# Altium integrated library LabLib.IntLib: 212 symbols (part 1 of 2)
Pins are listed as number, name and electrical type; pins without a type are passive.

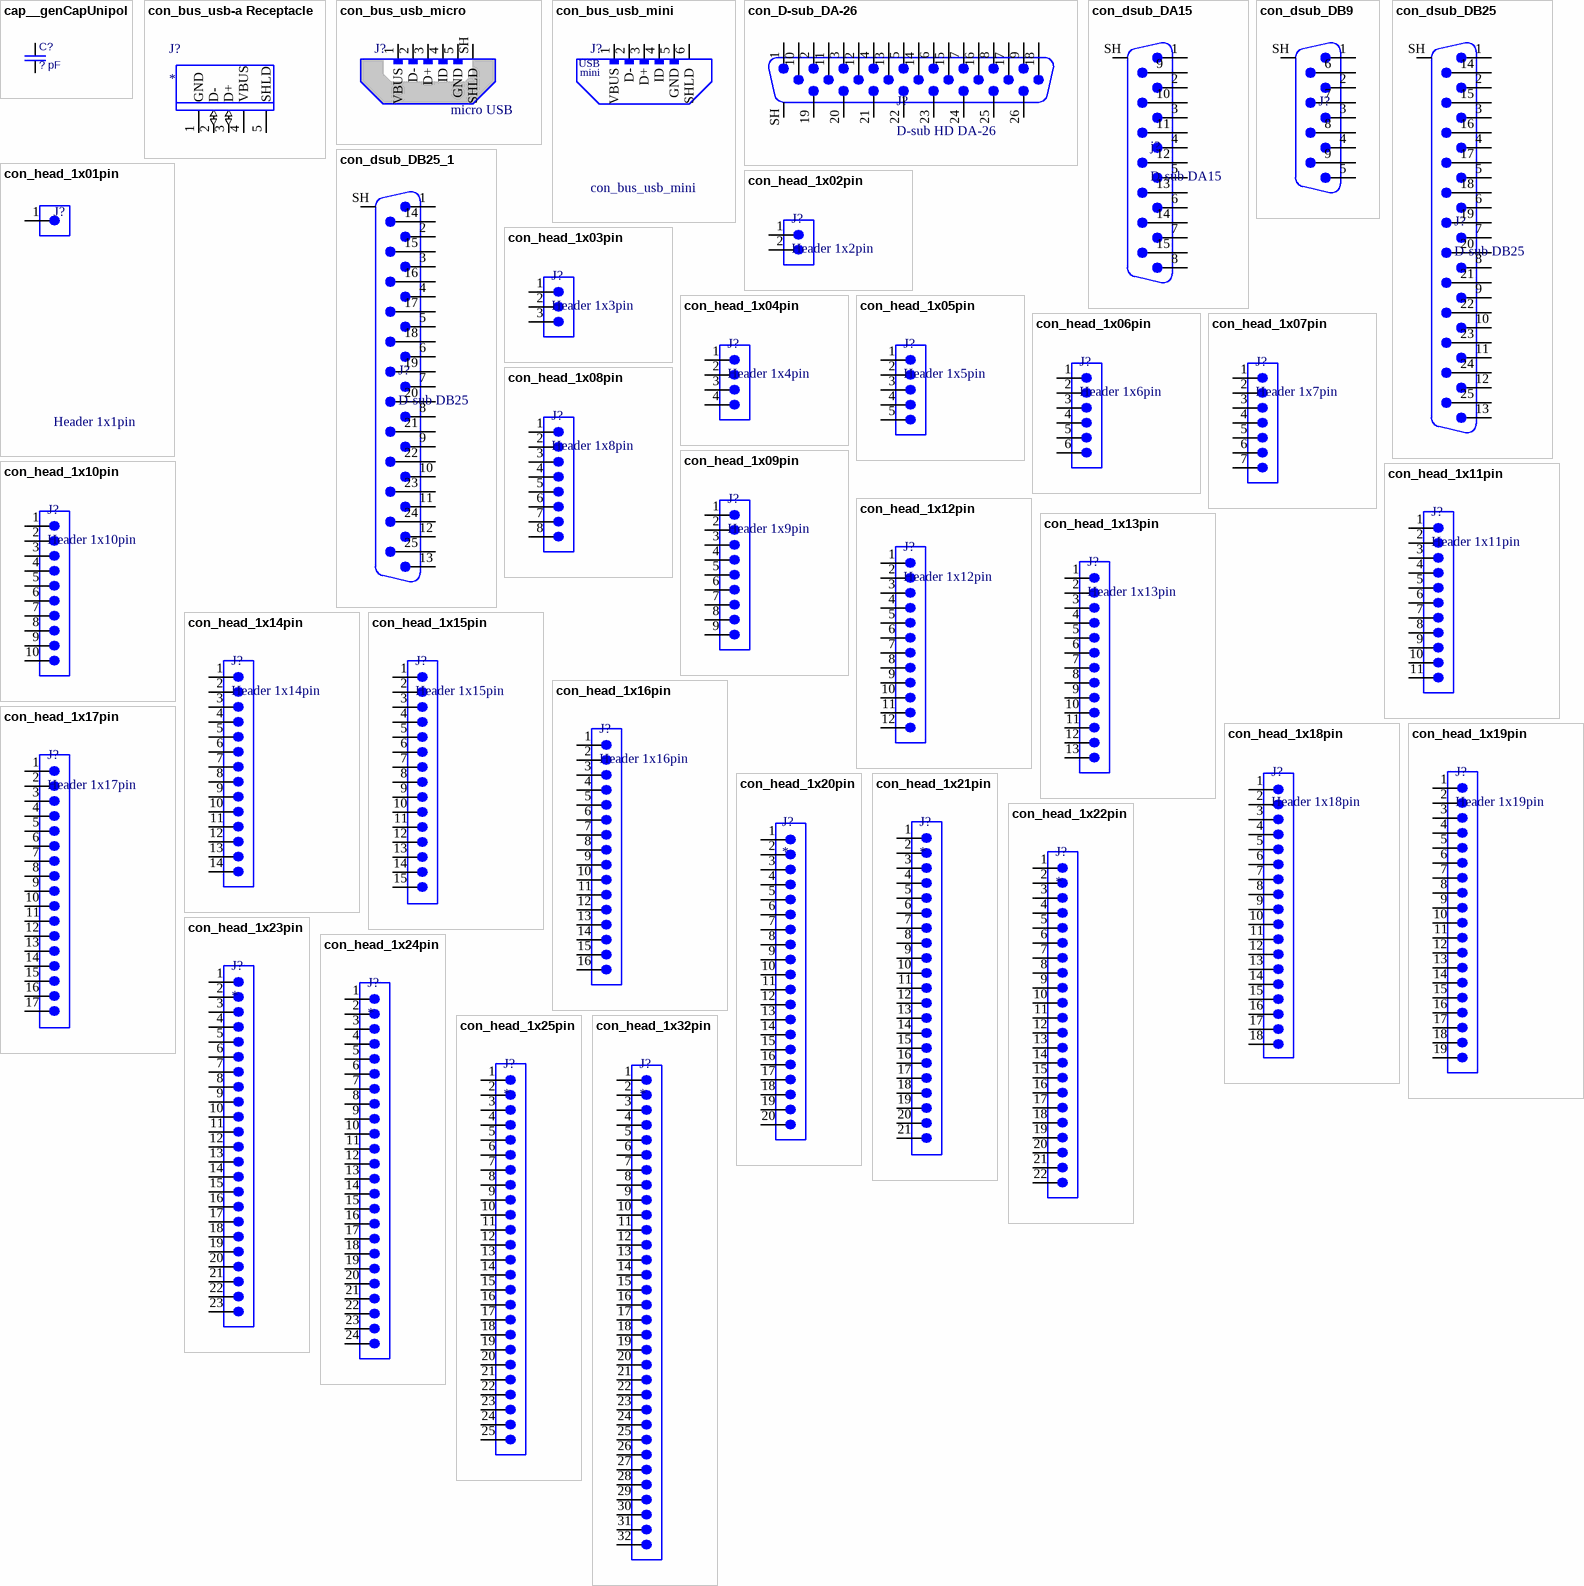
[diagram p0: symbols cap__genCapUnipol to con_head_1x32pin]

## cap__genCapUnipol
designator C?, comment ? pF
Generic unipolarised capasitor; Voltage rating: ? V; Value: ? pF
pins: 1, 2

## con_bus_usb-a Receptacle
designator J?
Standard USB A receptacle; Datasheet: http://www.molex.com/pdm_docs/sd/676430910_sd.pdf; Supplier 1: Digi-Key
footprint USB-A (Molex 067643-0910 Thru-hole top-mount USB-A receptacle)
pins: 1 GND (power), 2 D- (io), 3 D+ (io), 4 VBUS (power), 5 SHLD

## con_bus_usb_micro
designator J?, comment micro USB
Standard micro USB connector
footprint FCI_MICRO_USB_10103593-0001LF
pins: 1 VBUS, 2 D-, 3 D+, 4 ID, 5 GND, SH SHLD (power)

## con_bus_usb_mini
designator J?
Standard mini USB connector; Manufacturer Part Number: UX60-MB-5ST; Manufacturer Data Sheet: http://www.hirose.co.jp/cataloge_hp/e24000019.pdf; Supplier 1: Digi-Key
footprint USB_MINI_OBC
pins: 1 VBUS, 2 D-, 3 D+, 4 ID, 5 GND, 6 SHLD (power)
text: USB; mini

## con_D-sub_DA-26
designator J?, comment D-sub HD DA-26
D-sub high density 26 pin, shell size A
pins: 1, 2, 3, 4, 5, 6, 7, 8, 9, 10, 11, 12, 13, 14, 15, 16, 17, 18, 19, 20, 21, 22, 23, 24, 25, 26, SH

## con_dsub_DA15
designator j?, comment D-sub DA15
pins: 1, 2, 3, 4, 5, 6, 7, 8, 9, 10, 11, 12, 13, 14, 15, SH

## con_dsub_DB9
designator J?, comment D-sub DA9  (value not drawn)
pins: 1, 2, 3, 4, 5, 6, 7, 8, 9, SH

## con_dsub_DB25
designator J?, comment D-sub DB25
pins: 1, 2, 3, 4, 5, 6, 7, 8, 9, 10, 11, 12, 13, 14, 15, 16, 17, 18, 19, 20, 21, 22, 23, 24, 25, SH

## con_dsub_DB25_1
designator J?, comment D-sub DB25
pins: 1, 2, 3, 4, 5, 6, 7, 8, 9, 10, 11, 12, 13, 14, 15, 16, 17, 18, 19, 20, 21, 22, 23, 24, 25, SH

## con_head_1x01pin
designator J?, comment Header 1x1pin
footprint HEADER_1X1
pins: 1

## con_head_1x02pin
designator J?, comment Header 1x2pin
footprint HEADER_1X2
pins: 1, 2

## con_head_1x03pin
designator J?, comment Header 1x3pin
footprint HEADER_1X3
pins: 1, 2, 3

## con_head_1x04pin
designator J?, comment Header 1x4pin
footprint header_1x4
pins: 1, 2, 3, 4

## con_head_1x05pin
designator J?, comment Header 1x5pin
footprint header_1x5
pins: 1, 2, 3, 4, 5

## con_head_1x06pin
designator J?, comment Header 1x6pin
footprint header_1x6
pins: 1, 2, 3, 4, 5, 6

## con_head_1x07pin
designator J?, comment Header 1x7pin
footprint header_1x7
pins: 1, 2, 3, 4, 5, 6, 7

## con_head_1x08pin
designator J?, comment Header 1x8pin
footprint header_1x8
pins: 1, 2, 3, 4, 5, 6, 7, 8

## con_head_1x09pin
designator J?, comment Header 1x9pin
footprint header_1x9
pins: 1, 2, 3, 4, 5, 6, 7, 8, 9

## con_head_1x10pin
designator J?, comment Header 1x10pin
footprint header_1x10
pins: 1, 2, 3, 4, 5, 6, 7, 8, 9, 10

## con_head_1x11pin
designator J?, comment Header 1x11pin
footprint header_1x11
pins: 1, 2, 3, 4, 5, 6, 7, 8, 9, 10, 11

## con_head_1x12pin
designator J?, comment Header 1x12pin
footprint header_1x12
pins: 1, 2, 3, 4, 5, 6, 7, 8, 9, 10, 11, 12

## con_head_1x13pin
designator J?, comment Header 1x13pin
footprint header_1x13
pins: 1, 2, 3, 4, 5, 6, 7, 8, 9, 10, 11, 12, 13

## con_head_1x14pin
designator J?, comment Header 1x14pin
footprint header_1x14
pins: 1, 2, 3, 4, 5, 6, 7, 8, 9, 10, 11, 12, 13, 14

## con_head_1x15pin
designator J?, comment Header 1x15pin
footprint header_1x15
pins: 1, 2, 3, 4, 5, 6, 7, 8, 9, 10, 11, 12, 13, 14, 15

## con_head_1x16pin
designator J?, comment Header 1x16pin
footprint header_1x16
pins: 1, 2, 3, 4, 5, 6, 7, 8, 9, 10, 11, 12, 13, 14, 15, 16

## con_head_1x17pin
designator J?, comment Header 1x17pin
footprint header_1x17
pins: 1, 2, 3, 4, 5, 6, 7, 8, 9, 10, 11, 12, 13, 14, 15, 16, 17

## con_head_1x18pin
designator J?, comment Header 1x18pin
footprint header_1x18
pins: 1, 2, 3, 4, 5, 6, 7, 8, 9, 10, 11, 12, 13, 14, 15, 16, 17, 18

## con_head_1x19pin
designator J?, comment Header 1x19pin
footprint header_1x19
pins: 1, 2, 3, 4, 5, 6, 7, 8, 9, 10, 11, 12, 13, 14, 15, 16, 17, 18, 19

## con_head_1x20pin
designator J?
Header 1x20pin
footprint header_1x20
pins: 1, 2, 3, 4, 5, 6, 7, 8, 9, 10, 11, 12, 13, 14, 15, 16, 17, 18, 19, 20

## con_head_1x21pin
designator J?
Header 1x21pin
footprint header_1x21
pins: 1, 2, 3, 4, 5, 6, 7, 8, 9, 10, 11, 12, 13, 14, 15, 16, 17, 18, 19, 20, 21

## con_head_1x22pin
designator J?
Header 1x22pin
footprint header_1x22
pins: 1, 2, 3, 4, 5, 6, 7, 8, 9, 10, 11, 12, 13, 14, 15, 16, 17, 18, 19, 20, 21, 22

## con_head_1x23pin
designator J?
Header 1x23pin
footprint header_1x23
pins: 1, 2, 3, 4, 5, 6, 7, 8, 9, 10, 11, 12, 13, 14, 15, 16, 17, 18, 19, 20, 21, 22, 23

## con_head_1x24pin
designator J?
Header 1x24pin
footprint header_1x24
pins: 1, 2, 3, 4, 5, 6, 7, 8, 9, 10, 11, 12, 13, 14, 15, 16, 17, 18, 19, 20, 21, 22, 23, 24

## con_head_1x25pin
designator J?
Header 1x25pin
footprint header_1x25
pins: 1, 2, 3, 4, 5, 6, 7, 8, 9, 10, 11, 12, 13, 14, 15, 16, 17, 18, 19, 20, 21, 22, 23, 24, 25

## con_head_1x32pin
designator J?
Header 1x32pin
pins: 1, 2, 3, 4, 5, 6, 7, 8, 9, 10, 11, 12, 13, 14, 15, 16, 17, 18, 19, 20, 21, 22, 23, 24, 25, 26, 27, 28, 29, 30, 31, 32

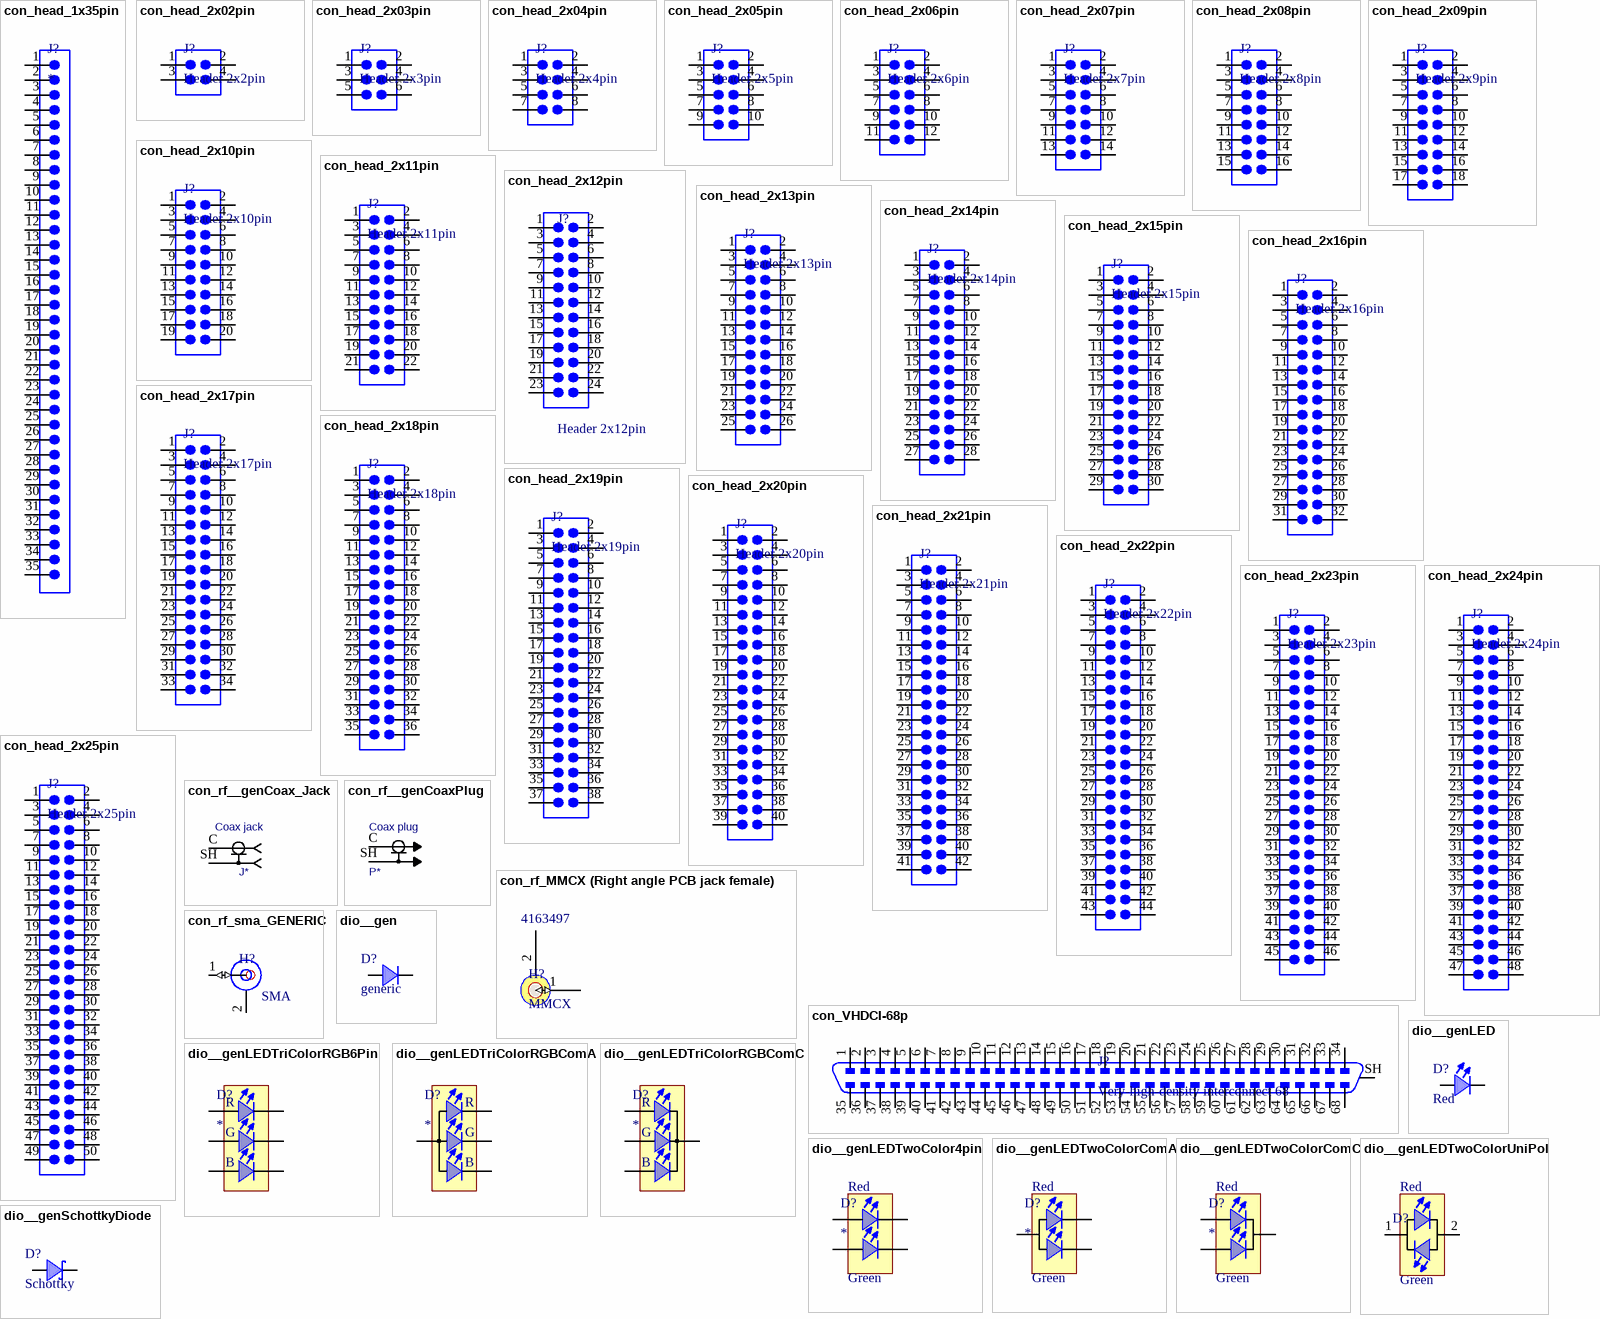
[diagram p1: symbols con_head_1x35pin to dio__genSchottkyDiode]

## con_head_1x35pin
designator J?
Header 1x35pin
pins: 1, 2, 3, 4, 5, 6, 7, 8, 9, 10, 11, 12, 13, 14, 15, 16, 17, 18, 19, 20, 21, 22, 23, 24, 25, 26, 27, 28, 29, 30, 31, 32, 33, 34, 35

## con_head_2x02pin
designator J?, comment Header 2x2pin
footprint header_2x2
pins: 1, 2, 3, 4

## con_head_2x03pin
designator J?, comment Header 2x3pin
footprint header_2x3
pins: 1, 2, 3, 4, 5, 6

## con_head_2x04pin
designator J?, comment Header 2x4pin
footprint header_2x4
pins: 1, 2, 3, 4, 5, 6, 7, 8

## con_head_2x05pin
designator J?, comment Header 2x5pin
footprint header_2x5
pins: 1, 2, 3, 4, 5, 6, 7, 8, 9, 10

## con_head_2x06pin
designator J?, comment Header 2x6pin
footprint header_2x6
pins: 1, 2, 3, 4, 5, 6, 7, 8, 9, 10, 11, 12

## con_head_2x07pin
designator J?, comment Header 2x7pin
footprint header_2x7
pins: 1, 2, 3, 4, 5, 6, 7, 8, 9, 10, 11, 12, 13, 14

## con_head_2x08pin
designator J?, comment Header 2x8pin
footprint header_2x8
pins: 1, 2, 3, 4, 5, 6, 7, 8, 9, 10, 11, 12, 13, 14, 15, 16

## con_head_2x09pin
designator J?, comment Header 2x9pin
footprint header_2x9
pins: 1, 2, 3, 4, 5, 6, 7, 8, 9, 10, 11, 12, 13, 14, 15, 16, 17, 18

## con_head_2x10pin
designator J?, comment Header 2x10pin
footprint header_2x10
pins: 1, 2, 3, 4, 5, 6, 7, 8, 9, 10, 11, 12, 13, 14, 15, 16, 17, 18, 19, 20

## con_head_2x11pin
designator J?, comment Header 2x11pin
footprint header_2x11
pins: 1, 2, 3, 4, 5, 6, 7, 8, 9, 10, 11, 12, 13, 14, 15, 16, 17, 18, 19, 20, 21, 22

## con_head_2x12pin
designator J?, comment Header 2x12pin
footprint HEADER_2X12_TH
pins: 1, 2, 3, 4, 5, 6, 7, 8, 9, 10, 11, 12, 13, 14, 15, 16, 17, 18, 19, 20, 21, 22, 23, 24

## con_head_2x13pin
designator J?, comment Header 2x13pin
footprint header_2x13
pins: 1, 2, 3, 4, 5, 6, 7, 8, 9, 10, 11, 12, 13, 14, 15, 16, 17, 18, 19, 20, 21, 22, 23, 24, 25, 26

## con_head_2x14pin
designator J?, comment Header 2x14pin
footprint header_2x14
pins: 1, 2, 3, 4, 5, 6, 7, 8, 9, 10, 11, 12, 13, 14, 15, 16, 17, 18, 19, 20, 21, 22, 23, 24, 25, 26, 27, 28

## con_head_2x15pin
designator J?, comment Header 2x15pin
footprint header_2x15
pins: 1, 2, 3, 4, 5, 6, 7, 8, 9, 10, 11, 12, 13, 14, 15, 16, 17, 18, 19, 20, 21, 22, 23, 24, 25, 26, 27, 28, 29, 30

## con_head_2x16pin
designator J?, comment Header 2x16pin
footprint header_2x16
pins: 1, 2, 3, 4, 5, 6, 7, 8, 9, 10, 11, 12, 13, 14, 15, 16, 17, 18, 19, 20, 21, 22, 23, 24, 25, 26, 27, 28, 29, 30, 31, 32

## con_head_2x17pin
designator J?, comment Header 2x17pin
footprint header_2x17
pins: 1, 2, 3, 4, 5, 6, 7, 8, 9, 10, 11, 12, 13, 14, 15, 16, 17, 18, 19, 20, 21, 22, 23, 24, 25, 26, 27, 28, 29, 30, 31, 32, 33, 34

## con_head_2x18pin
designator J?, comment Header 2x18pin
footprint header_2x18
pins: 1, 2, 3, 4, 5, 6, 7, 8, 9, 10, 11, 12, 13, 14, 15, 16, 17, 18, 19, 20, 21, 22, 23, 24, 25, 26, 27, 28, 29, 30, 31, 32, 33, 34, 35, 36

## con_head_2x19pin
designator J?, comment Header 2x19pin
footprint header_2x19
pins: 1, 2, 3, 4, 5, 6, 7, 8, 9, 10, 11, 12, 13, 14, 15, 16, 17, 18, 19, 20, 21, 22, 23, 24, 25, 26, 27, 28, 29, 30, 31, 32, 33, 34, 35, 36, 37, 38

## con_head_2x20pin
designator J?, comment Header 2x20pin
footprint header_2x20
pins: 1, 2, 3, 4, 5, 6, 7, 8, 9, 10, 11, 12, 13, 14, 15, 16, 17, 18, 19, 20, 21, 22, 23, 24, 25, 26, 27, 28, 29, 30, 31, 32, 33, 34, 35, 36, 37, 38, 39, 40

## con_head_2x21pin
designator J?, comment Header 2x21pin
footprint header_2x21
pins: 1, 2, 3, 4, 5, 6, 7, 8, 9, 10, 11, 12, 13, 14, 15, 16, 17, 18, 19, 20, 21, 22, 23, 24, 25, 26, 27, 28, 29, 30, 31, 32, 33, 34, 35, 36, 37, 38, 39, 40, 41, 42

## con_head_2x22pin
designator J?, comment Header 2x22pin
footprint header_2x22
pins: 1, 2, 3, 4, 5, 6, 7, 8, 9, 10, 11, 12, 13, 14, 15, 16, 17, 18, 19, 20, 21, 22, 23, 24, 25, 26, 27, 28, 29, 30, 31, 32, 33, 34, 35, 36, 37, 38, 39, 40, 41, 42, 43, 44

## con_head_2x23pin
designator J?, comment Header 2x23pin
footprint header_2x23
pins: 1, 2, 3, 4, 5, 6, 7, 8, 9, 10, 11, 12, 13, 14, 15, 16, 17, 18, 19, 20, 21, 22, 23, 24, 25, 26, 27, 28, 29, 30, 31, 32, 33, 34, 35, 36, 37, 38, 39, 40, 41, 42, 43, 44, 45, 46

## con_head_2x24pin
designator J?, comment Header 2x24pin
footprint header_2x24
pins: 1, 2, 3, 4, 5, 6, 7, 8, 9, 10, 11, 12, 13, 14, 15, 16, 17, 18, 19, 20, 21, 22, 23, 24, 25, 26, 27, 28, 29, 30, 31, 32, 33, 34, 35, 36, 37, 38, 39, 40, 41, 42, 43, 44, 45, 46, 47, 48

## con_head_2x25pin
designator J?, comment Header 2x25pin
footprint header_2x25
pins: 1, 2, 3, 4, 5, 6, 7, 8, 9, 10, 11, 12, 13, 14, 15, 16, 17, 18, 19, 20, 21, 22, 23, 24, 25, 26, 27, 28, 29, 30, 31, 32, 33, 34, 35, 36, 37, 38, 39, 40, 41, 42, 43, 44, 45, 46, 47, 48, 49, 50

## con_rf__genCoax_Jack
designator J*, comment Coax jack
Generic coaxial jack
pins: C, SH 9

## con_rf__genCoaxPlug
designator P*, comment Coax plug
Generic coaxial plug
pins: C, SH 9

## con_rf_MMCX (Right angle PCB jack female)
designator H?, comment MMCX  Supplier Part Number 1: 4163497
Supplier 1: Farnell
footprint MMCX (Right angled PCB jack with 3D boddy)
pins: 1 (io), 2 (oc)

## con_rf_sma_GENERIC
designator H?  (value not drawn)
footprint SMA4.75V5 (Connector; RF Coaxial, SMA, SM; 5 Position; Vertical)
pins: 1 (io) "Positive", 2 GND (power)
text: SMA

## con_VHDCI-68p
designator J?, comment Very-high-density interconnect 68
pins: 1, 2, 3, 4, 5, 6, 7, 8, 9, 10, 11, 12, 13, 14, 15, 16, 17, 18, 19, 20, 21, 22, 23, 24, 25, 26, 27, 28, 29, 30, 31, 32, 33, 34, 35, 36, 37, 38, 39, 40, 41, 42, 43, 44, 45, 46, 47, 48, 49, 50, 51, 52, 53, 54, 55, 56, 57, 58, 59, 60, 61, 62, 63, 64, 65, 66, 67, 68, SH

## dio__gen
designator D?, comment generic
Generic Diode; Model: generic
pins: 1 A, 2 C

## dio__genLED
designator D?, comment Red
Generic Single-color Light Emitting Diode - LED; Color: Red
pins: 1 A, 2 C

## dio__genLEDTriColorRGB6Pin
designator D?
Generic Tri-color RGB 6-pin Light Emitting Diode - LED
pins: 1 CB, 2 CG, 3 CR, 4 AR, 5 AG, 6 AB
text: R; G; B

## dio__genLEDTriColorRGBComA
designator D?
Generic Tri-color RGB Common Anode Light Emitting Diode - LED
pins: 1 CB, 2 A, 3 CG, 4 CR
text: R; G; B

## dio__genLEDTriColorRGBComC
designator D?
Generic Tri-color RGB Common Cathode Light Emitting Diode - LED
pins: 1 AB, 2 C, 3 AG, 4 AR
text: R; G; B

## dio__genLEDTwoColor4pin
designator D?  Color1: Red  Color2: Green
Generic Two-color 4-pin Light Emitting Diode - LED
pins: 1 C1, 2 C2, 3 A2, 4 A1

## dio__genLEDTwoColorComA
designator D?  Color1: Red  Color2: Green
Generic Two-color Common Anode Light Emitting Diode - LED
pins: 1 C1, 2 A, 3 C2

## dio__genLEDTwoColorComC
designator D?  Color1: Red  Color2: Green
Generic Two-color Common Cathode Light Emitting Diode - LED
pins: 1 A1, 2 C, 3 A2

## dio__genLEDTwoColorUniPol
designator D?  Color1: Red  Color2: Green  (hidden comment: *)
Generic Two-color Unipolarty Light Emitting Diode - LED
pins: 1, 2

## dio__genSchottkyDiode
designator D?, comment Schottky
Generic Schottky Diode
pins: 1 A, 2 C

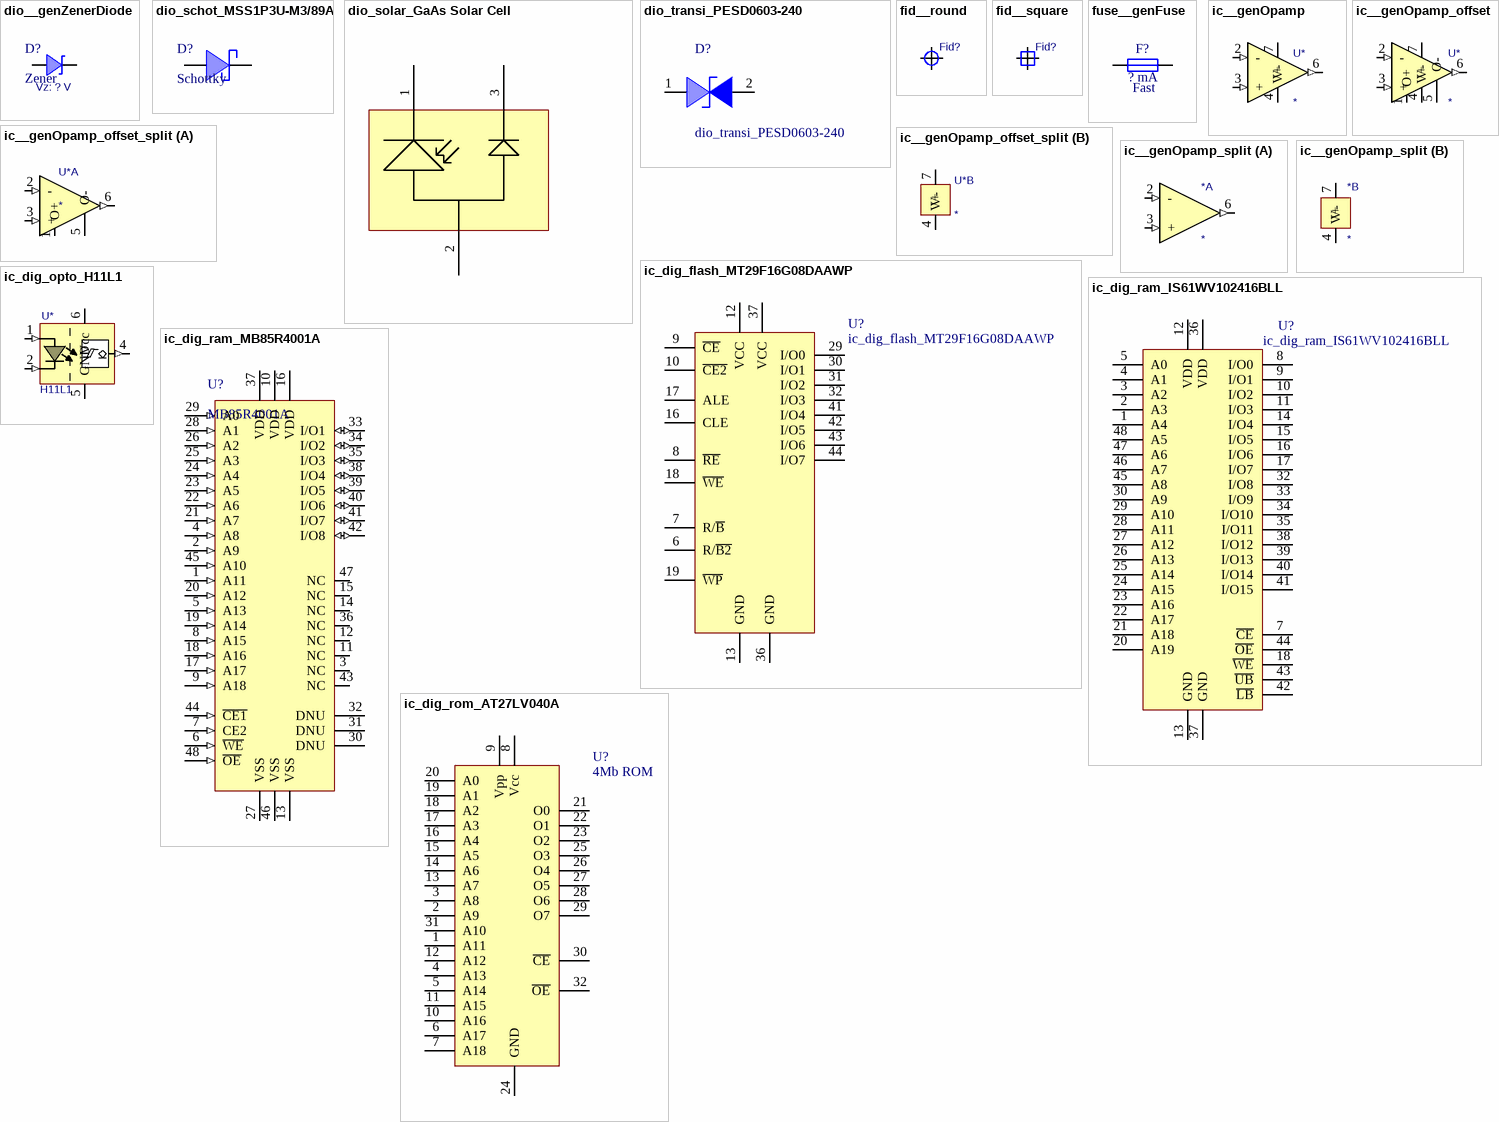
[diagram p2: symbols dio__genZenerDiode to ic_dig_rom_AT27LV040A]

## dio__genZenerDiode
designator D?, comment Zener  Vz: ? V
Generic Zener Diode
pins: 1 A, 2 C

## dio_schot_MSS1P3U-M3/89A
designator D?, comment Schottky
Schottky diode MSS1P3U-M3/89A from Vishay; Supplier 1: Digi-Key; Supplier Part Number 1: MSS1P3U-M3/89ACT-ND
footprint MicroSMP; pin to pad C>K
pins: A Anode, C Cathode

## dio_solar_GaAs Solar Cell
designator D?, comment Solar Cell
GalnP2/GaAs/Ge on Ge substrate; LatestRevisionDate: 06-03-2012; LatestRevisionNote: Re-released for DXP Platform.; Publisher: Andreas Østensen
signal-integrity model Connector
footprint Solar Cell - with positive port (With access to the positive port)
footprint Solar Cell - Glued tab to positive terminal (Positive tab glued on, all tabs shortened)
footprint Solar Cell - Short glued tab (Access to positive port, extra short tabs)
pins: 1, 2, 3

## dio_transi_PESD0603-240
designator D?
PESD0603-240; LatestRevisionDate: 17-Jul-2002; LatestRevisionNote: Re-released for DXP Platform.; Publisher: Altium Limited
signal-integrity model Connector
footprint PESD0603
pins: 1, 2

## fid__round
designator Fid?, comment Fid  (value not drawn)
Fiducial marker round
footprint FID__Round (Fiducial marker round)

## fid__square
designator Fid?, comment Fid  (value not drawn)
Fiducial marker square
footprint FID__Square (Fiducial marker square)

## fuse__genFuse
designator F?, comment Type: Fast  (hidden comment: ? mA)
Generic fuse; Value: ? mA
pins: 1, 2

## ic__genOpamp
designator U*
Generic Op-Amp
pins: 2 - (in), 3 + (in), 4 V- (power), 6 2 (out), 7 V+ (power)

## ic__genOpamp_offset
designator U*
Generic Op-Amp w/offset
pins: 1 O+, 2 - (in), 3 + (in), 4 V- (power), 5 O-, 6 2 (out), 7 V+ (power)

## ic__genOpamp_offset_split
designator U*
Generic Op-Amp w/offset - Split schematic symbol
part A pins: 1 O+, 2 - (in), 3 + (in), 5 O-, 6 2 (out)
part B pins: 4 V- (power), 7 V+ (power)

## ic__genOpamp_split
designator *
Generic Opamp - Split schematic symbol
part A pins: 2 - (in), 3 + (in), 6 2 (out)
part B pins: 4 V- (power), 7 V+ (power)

## ic_dig_flash_MT29F16G08DAAWP
designator U?
NAND Flash Memory
footprint TSSOP50P2000X120-48N
footprint MT29F16G08DAAWP:A TR (SOP127P600-8N medium density)
pins: 6 R/~{B2}, 7 R/~{B}, 8 ~{RE}, 9 ~{CE}, 10 ~{CE2}, 12 VCC, 13 GND, 16 CLE, 17 ALE, 18 ~{WE}, 19 ~{WP}, 29 I/O0, 30 I/O1, 31 I/O2, 32 I/O3, 36 GND, 37 VCC, 41 I/O4, 42 I/O5, 43 I/O6, 44 I/O7

## ic_dig_opto_H11L1
designator U*, comment H11L1
High speed optocoupler with schmitt trigger
pins: 1 A (in), 2 K (in), 4 Out (out), 5 GND (power), 6 Vcc (power)

## ic_dig_ram_IS61WV102416BLL
designator U?
High-speed Asynchronous CMOS Static RAM; LatestRevisionDate: 17-Jul-2002; LatestRevisionNote: Re-released for DXP Platform.; Publisher: Altium Limited
footprint TSSOP50P2000X120-48N (TSSOP, 48-Leads, Body 12,1x18,5mm (max), Pitch 0,50mm, IPC Medium Density)
footprint IS61WV102416BLL-10TLI (SOP127P600-8N Medium density)
pins: 1 A4, 2 A3, 3 A2, 4 A1, 5 A0, 7 ~{CE}, 8 I/O0, 9 I/O1, 10 I/O2, 11 I/O3, 12 VDD, 13 GND, 14 I/O4, 15 I/O5, 16 I/O6, 17 I/O7, 18 ~{WE}, 20 A19, 21 A18, 22 A17, 23 A16, 24 A15, 25 A14, 26 A13, 27 A12, 28 A11, 29 A10, 30 A9, 32 I/O8, 33 I/O9, 34 I/O10, 35 I/O11, 36 VDD, 37 GND, 38 I/O12, 39 I/O13, 40 I/O14, 41 I/O15, 42 ~{LB}, 43 ~{UB}, 44 ~{OE}, 45 A8, 46 A7, 47 A6, 48 A5

## ic_dig_ram_MB85R4001A
designator U?, comment MB85R4001A
FRAM   4 M Bit (512 K × 8)
footprint TSSOP50P1400X120-48N (TSSOP, 48-Leads, Body 12,00x12,40mm, Pitch 0,50mm, IPC Medium Density)
pins: 1 A11 (in), 2 A9 (in), 3 NC, 4 A8 (in), 5 A13 (in), 6 ~{WE} (in), 7 CE2 (in), 8 A15 (in), 9 A18 (in), 10 VDD (power), 11 NC, 12 NC, 13 VSS (power), 14 NC, 15 NC, 16 VDD (power), 17 A17 (in), 18 A16 (in), 19 A14 (in), 20 A12 (in), 21 A7 (in), 22 A6 (in), 23 A5 (in), 24 A4 (in), 25 A3 (in), 26 A2 (in), 27 VSS (power), 28 A1 (in), 29 A0 (in), 30 DNU, 31 DNU, 32 DNU, 33 I/O1 (io), 34 I/O2 (io), 35 I/O3 (io), 36 NC, 37 VDD (power), 38 I/O4 (io), 39 I/O5 (io), 40 I/O6 (io), 41 I/O7 (io), 42 I/O8 (io), 43 NC, 44 ~{CE1} (in), 45 A10 (in), 46 VSS (power), 47 NC, 48 ~{OE} (in)

## ic_dig_rom_AT27LV040A
designator U?, comment 4Mb ROM
4Mb, Low Voltage, One-time Programmable, Read-only Memory
footprint TSSOP50P1390X120-32N
pins: 1 A11, 2 A9, 3 A8, 4 A13, 5 A14, 6 A17, 7 A18, 8 Vcc, 9 Vpp, 10 A16, 11 A15, 12 A12, 13 A7, 14 A6, 15 A5, 16 A4, 17 A3, 18 A2, 19 A1, 20 A0, 21 O0, 22 O1, 23 O2, 24 GND, 25 O3, 26 O4, 27 O5, 28 O6, 29 O7, 30 ~{CE}, 31 A10, 32 ~{OE}

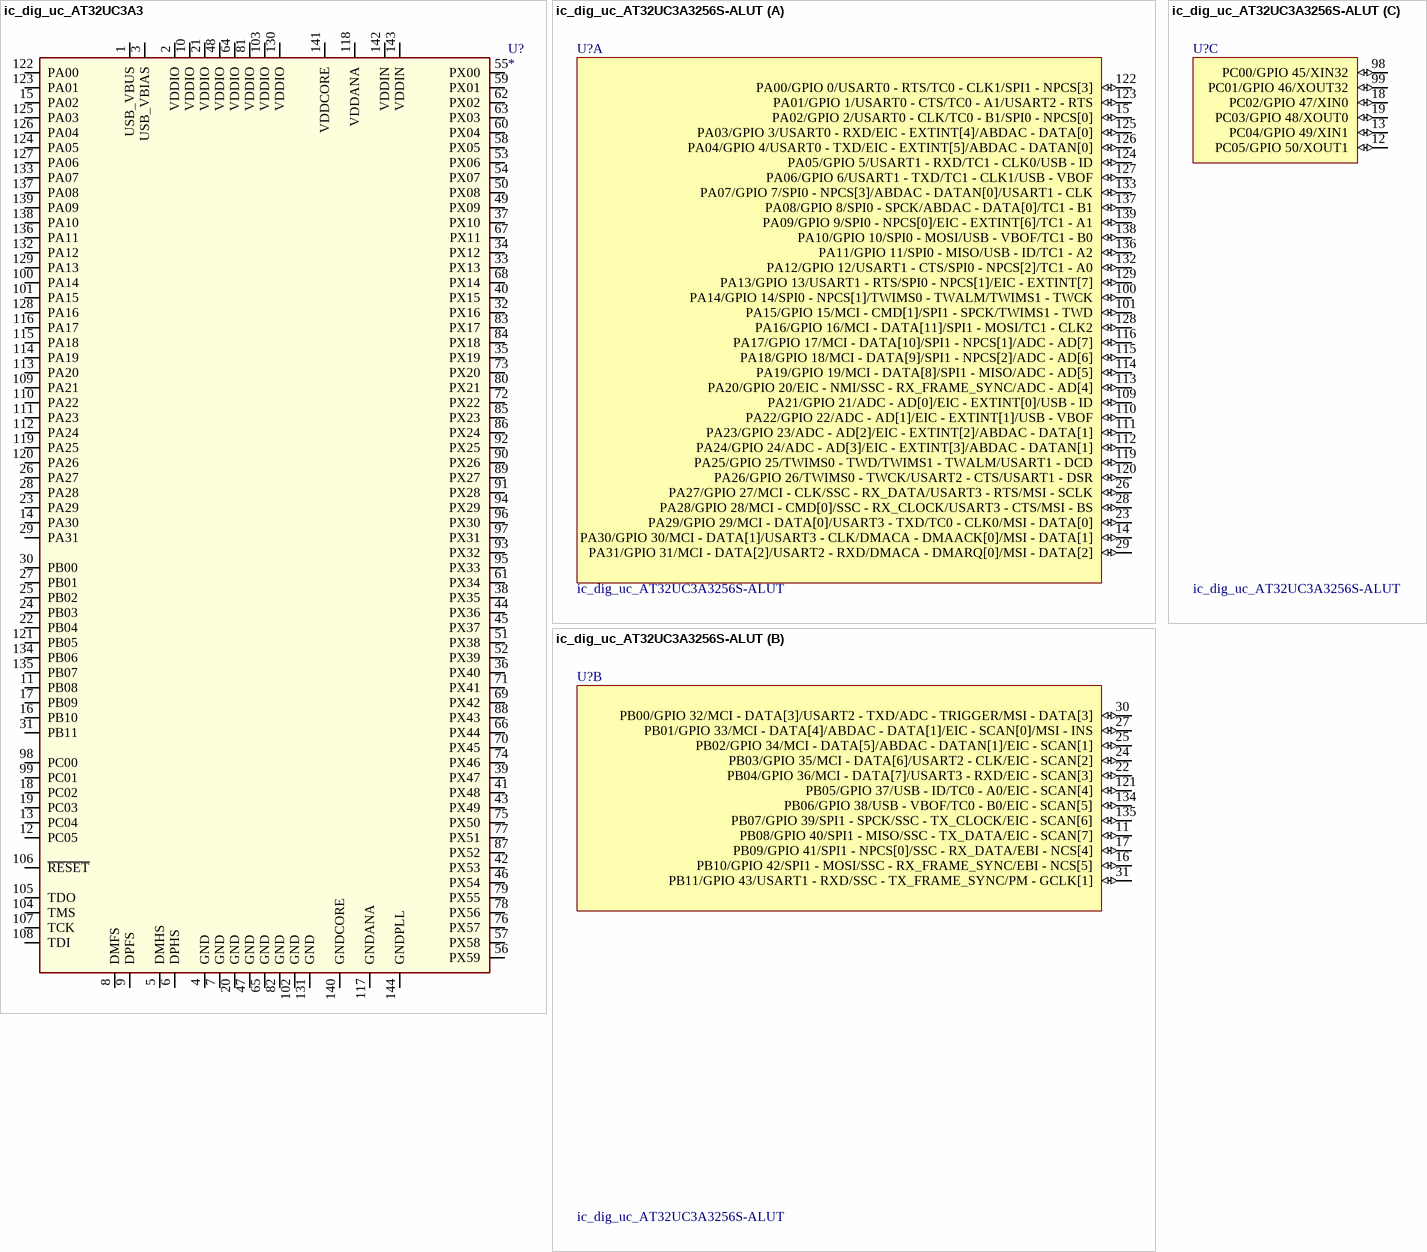
[diagram p3: symbols ic_dig_uc_AT32UC3A3 to ic_dig_uc_AT32UC3A3256S-ALUT]

## ic_dig_uc_AT32UC3A3
designator U?
footprint LQFP_144
footprint LQFP_144
pins: 1 USB_VBUS, 2 VDDIO (power), 3 USB_VBIAS, 4 GND (power), 5 DMHS, 6 DPHS, 7 GND (power), 8 DMFS, 9 DPFS, 10 VDDIO (power), 11 PB08, 12 PC05, 13 PC04, 14 PA30, 15 PA02, 16 PB10, 17 PB09, 18 PC02, 19 PC03, 20 GND (power), 21 VDDIO (power), 22 PB04, 23 PA29, 24 PB03, 25 PB02, 26 PA27, 27 PB01, 28 PA28, 29 PA31, 30 PB00, 31 PB11, 32 PX16, 33 PX13, 34 PX12, 35 PX19, 36 PX40, 37 PX10, 38 PX35, 39 PX47, 40 PX15, 41 PX48, 42 PX53, 43 PX49, 44 PX36, 45 PX37, 46 PX54, 47 GND (power), 48 VDDIO (power), 49 PX09, 50 PX08, 51 PX38, 52 PX39, 53 PX06, 54 PX07, 55 PX00, 56 PX59, 57 PX58, 58 PX05, 59 PX01, 60 PX04, 61 PX34, 62 PX02, 63 PX03, 64 VDDIO (power), 65 GND (power), 66 PX44, 67 PX11, 68 PX14, 69 PX42, 70 PX45, 71 PX41, 72 PX22, 73 PX20, 74 PX46, 75 PX50, 76 PX57, 77 PX51, 78 PX56, 79 PX55, 80 PX21, 81 VDDIO (power), 82 GND (power), 83 PX17, 84 PX18, 85 PX23, 86 PX24, 87 PX52, 88 PX43, 89 PX27, 90 PX26, 91 PX28, 92 PX25, 93 PX32, 94 PX29, 95 PX33, 96 PX30, 97 PX31, 98 PC00, 99 PC01, 100 PA14, 101 PA15, 102 GND (power), 103 VDDIO (power), 104 TMS, 105 TDO, 106 ~{RESET}, 107 TCK, 108 TDI, 109 PA21, 110 PA22, 111 PA23, 112 PA24, 113 PA20, 114 PA19, 115 PA18, 116 PA17, 117 GNDANA, 118 VDDANA (power), 119 PA25, 120 PA26, 121 PB05, 122 PA00, 123 PA01, 124 PA05, 125 PA03, 126 PA04, 127 PA06, 128 PA16, 129 PA13, 130 VDDIO (power), 131 GND (power), 132 PA12, 133 PA07, 134 PB06, 135 PB07, 136 PA11, 137 PA08, 138 PA10, 139 PA09, 140 GNDCORE, 141 VDDCORE (power), 142 VDDIN (power), 143 VDDIN (power), 144 GNDPLL

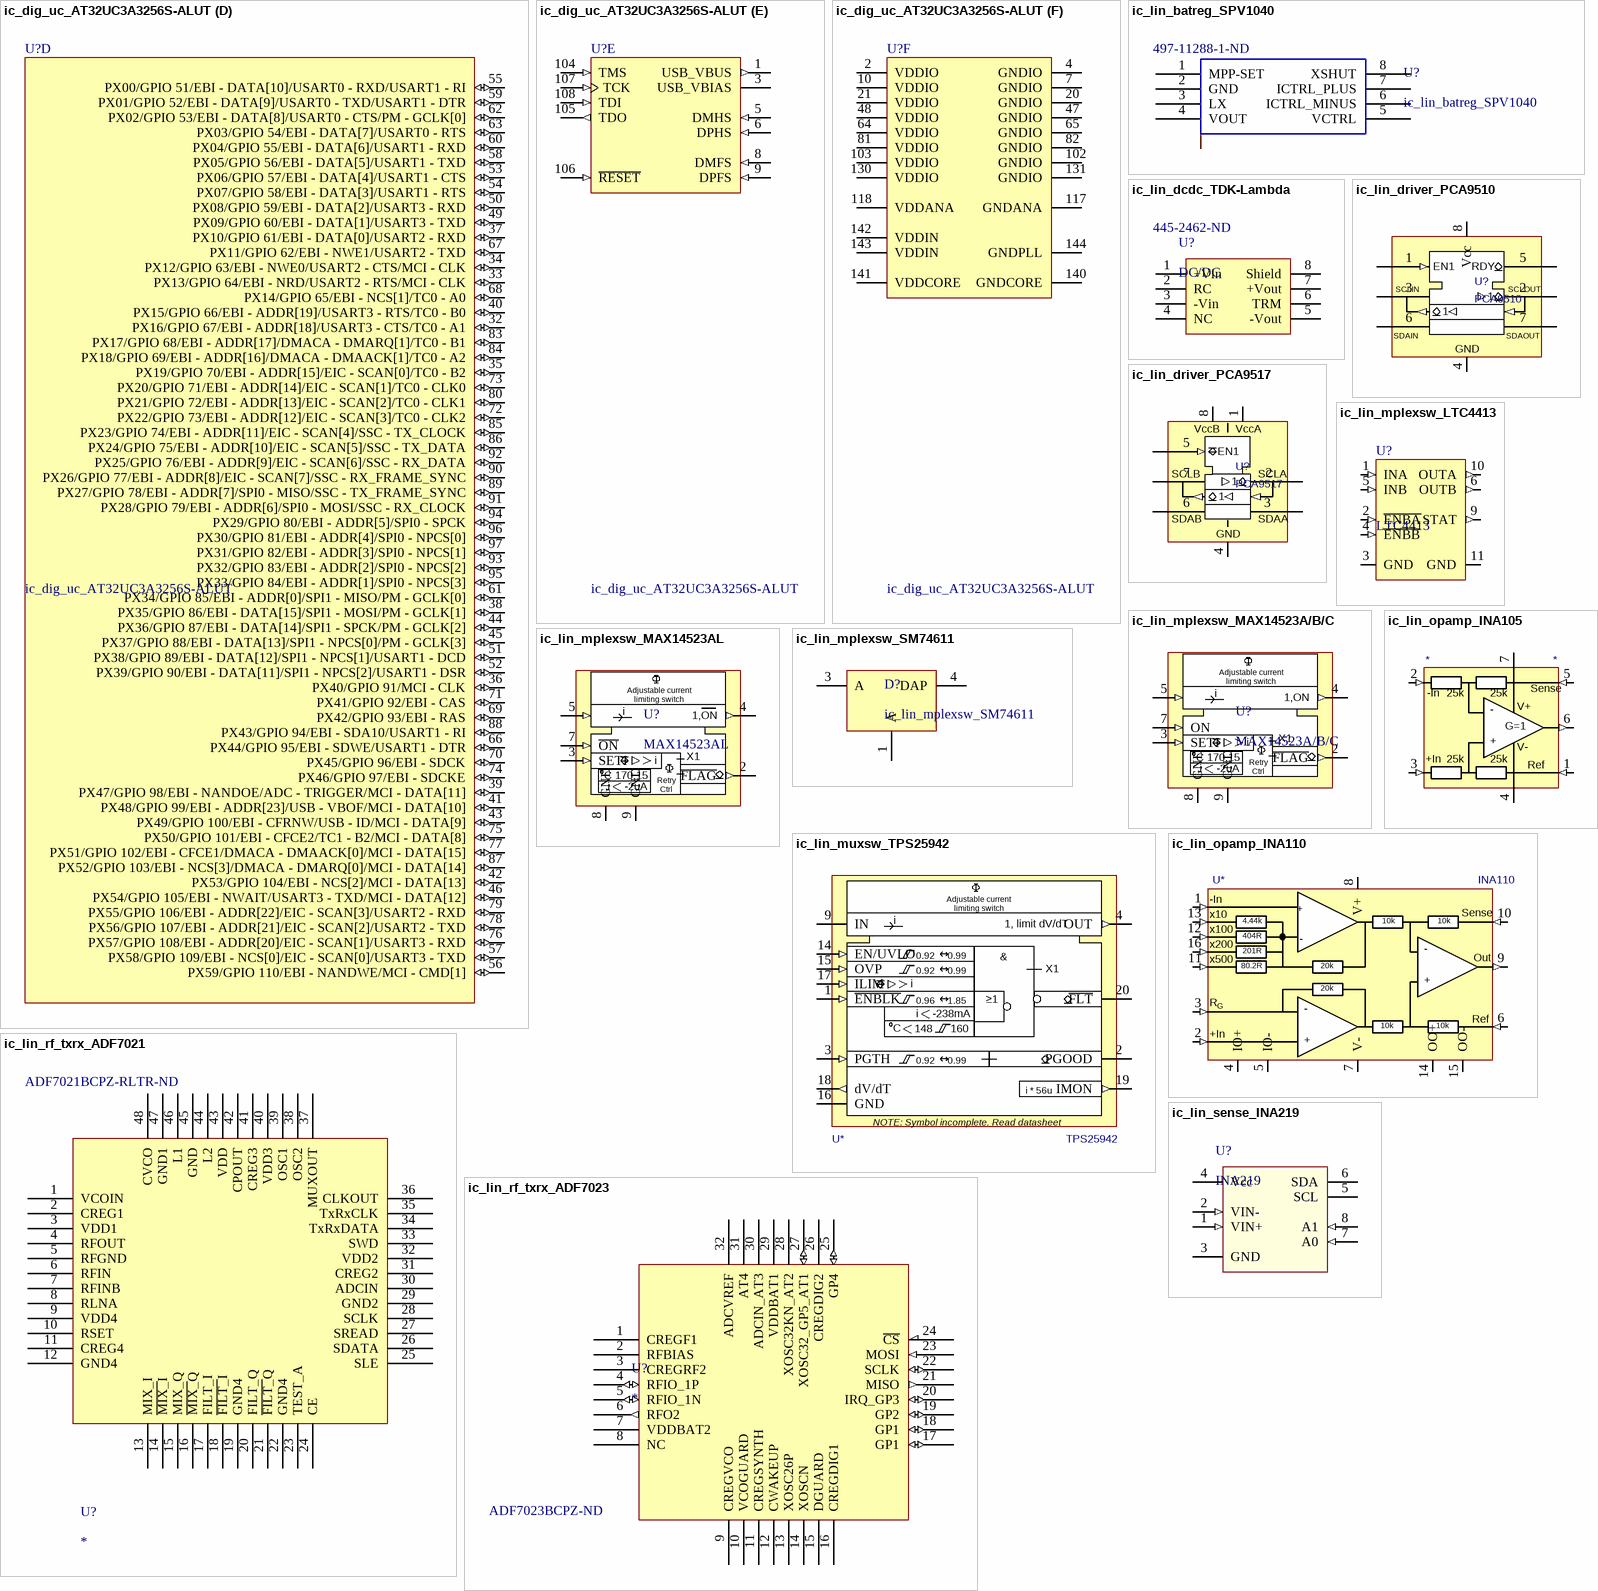
[diagram p4: symbols ic_dig_uc_AT32UC3A3256S-ALUT to ic_lin_sense_INA219]

## ic_dig_uc_AT32UC3A3256S-ALUT
designator U?
32-bit AVR UC3 Microcontroller, 256KB Flash, 128KB SRAM, 110 GPIO pins, Crypto, 144-Pin LQFP, Industrial Grade, Tray; Published: 1-Apr-2010; DatasheetVersion: revC, Mar-2010; PackageVersion: rev.C, Oct-2001; PackageReference: 144AA; Publisher: Altium Limited; PackageDescription: 144-Pin Thin Quad Flat Pack 0.5 mm Pitch; Supplier 1: Digi-Key; Supplier Part Number 1: AT32UC3A3256S-ALUT-ND; Supplier 2: Mouser; Supplier Part Number 2: 556-AT32UC3A3256SALT; Code_JEDEC: MS-026-BFB; ComponentLink1Description: Manufacturer Link; ComponentLink1URL: http://www.atmel.com/products/avr/default.asp?; ComponentLink2Description: AT32UC3A3/A4 Datasheet; ComponentLink2URL: http://www.atmel.com/dyn/resources/prod_documents/doc32072.pdf; ComponentLink3Description: AT32UC3A3/A4 Summary; ComponentLink3URL: http://www.atmel.com/dyn/resources/prod_documents/32072s.pdf; ComponentLink4Description: Atmel.com Home; ComponentLink4URL: http://www.atmel.com
footprint 144AA_N
part A pins: 14 PA30/GPIO 30/MCI - DATA[1]/USART3 - CLK/DMACA - DMAACK[0]/MSI - DATA[1] (io), 15 PA02/GPIO 2/USART0 - CLK/TC0 - B1/SPI0 - NPCS[0] (io), 23 PA29/GPIO 29/MCI - DATA[0]/USART3 - TXD/TC0 - CLK0/MSI - DATA[0] (io), 26 PA27/GPIO 27/MCI - CLK/SSC - RX_DATA/USART3 - RTS/MSI - SCLK (io), 28 PA28/GPIO 28/MCI - CMD[0]/SSC - RX_CLOCK/USART3 - CTS/MSI - BS (io), 29 PA31/GPIO 31/MCI - DATA[2]/USART2 - RXD/DMACA - DMARQ[0]/MSI - DATA[2] (io), 100 PA14/GPIO 14/SPI0 - NPCS[1]/TWIMS0 - TWALM/TWIMS1 - TWCK (io), 101 PA15/GPIO 15/MCI - CMD[1]/SPI1 - SPCK/TWIMS1 - TWD (io), 109 PA21/GPIO 21/ADC - AD[0]/EIC - EXTINT[0]/USB - ID (io), 110 PA22/GPIO 22/ADC - AD[1]/EIC - EXTINT[1]/USB - VBOF (io), 111 PA23/GPIO 23/ADC - AD[2]/EIC - EXTINT[2]/ABDAC - DATA[1] (io), 112 PA24/GPIO 24/ADC - AD[3]/EIC - EXTINT[3]/ABDAC - DATAN[1] (io), 113 PA20/GPIO 20/EIC - NMI/SSC - RX_FRAME_SYNC/ADC - AD[4] (io), 114 PA19/GPIO 19/MCI - DATA[8]/SPI1 - MISO/ADC - AD[5] (io), 115 PA18/GPIO 18/MCI - DATA[9]/SPI1 - NPCS[2]/ADC - AD[6] (io), 116 PA17/GPIO 17/MCI - DATA[10]/SPI1 - NPCS[1]/ADC - AD[7] (io), 119 PA25/GPIO 25/TWIMS0 - TWD/TWIMS1 - TWALM/USART1 - DCD (io), 120 PA26/GPIO 26/TWIMS0 - TWCK/USART2 - CTS/USART1 - DSR (io), 122 PA00/GPIO 0/USART0 - RTS/TC0 - CLK1/SPI1 - NPCS[3] (io), 123 PA01/GPIO 1/USART0 - CTS/TC0 - A1/USART2 - RTS (io), 124 PA05/GPIO 5/USART1 - RXD/TC1 - CLK0/USB - ID (io), 125 PA03/GPIO 3/USART0 - RXD/EIC - EXTINT[4]/ABDAC - DATA[0] (io), 126 PA04/GPIO 4/USART0 - TXD/EIC - EXTINT[5]/ABDAC - DATAN[0] (io), 127 PA06/GPIO 6/USART1 - TXD/TC1 - CLK1/USB - VBOF (io), 128 PA16/GPIO 16/MCI - DATA[11]/SPI1 - MOSI/TC1 - CLK2 (io), 129 PA13/GPIO 13/USART1 - RTS/SPI0 - NPCS[1]/EIC - EXTINT[7] (io), 132 PA12/GPIO 12/USART1 - CTS/SPI0 - NPCS[2]/TC1 - A0 (io), 133 PA07/GPIO 7/SPI0 - NPCS[3]/ABDAC - DATAN[0]/USART1 - CLK (io), 136 PA11/GPIO 11/SPI0 - MISO/USB - ID/TC1 - A2 (io), 137 PA08/GPIO 8/SPI0 - SPCK/ABDAC - DATA[0]/TC1 - B1 (io), 138 PA10/GPIO 10/SPI0 - MOSI/USB - VBOF/TC1 - B0 (io), 139 PA09/GPIO 9/SPI0 - NPCS[0]/EIC - EXTINT[6]/TC1 - A1 (io)
part B pins: 11 PB08/GPIO 40/SPI1 - MISO/SSC - TX_DATA/EIC - SCAN[7] (io), 16 PB10/GPIO 42/SPI1 - MOSI/SSC - RX_FRAME_SYNC/EBI - NCS[5] (io), 17 PB09/GPIO 41/SPI1 - NPCS[0]/SSC - RX_DATA/EBI - NCS[4] (io), 22 PB04/GPIO 36/MCI - DATA[7]/USART3 - RXD/EIC - SCAN[3] (io), 24 PB03/GPIO 35/MCI - DATA[6]/USART2 - CLK/EIC - SCAN[2] (io), 25 PB02/GPIO 34/MCI - DATA[5]/ABDAC - DATAN[1]/EIC - SCAN[1] (io), 27 PB01/GPIO 33/MCI - DATA[4]/ABDAC - DATA[1]/EIC - SCAN[0]/MSI - INS (io), 30 PB00/GPIO 32/MCI - DATA[3]/USART2 - TXD/ADC - TRIGGER/MSI - DATA[3] (io), 31 PB11/GPIO 43/USART1 - RXD/SSC - TX_FRAME_SYNC/PM - GCLK[1] (io), 121 PB05/GPIO 37/USB - ID/TC0 - A0/EIC - SCAN[4] (io), 134 PB06/GPIO 38/USB - VBOF/TC0 - B0/EIC - SCAN[5] (io), 135 PB07/GPIO 39/SPI1 - SPCK/SSC - TX_CLOCK/EIC - SCAN[6] (io)
part C pins: 12 PC05/GPIO 50/XOUT1 (io), 13 PC04/GPIO 49/XIN1 (io), 18 PC02/GPIO 47/XIN0 (io), 19 PC03/GPIO 48/XOUT0 (io), 98 PC00/GPIO 45/XIN32 (io), 99 PC01/GPIO 46/XOUT32 (io)
part D pins: 32 PX16/GPIO 67/EBI - ADDR[18]/USART3 - CTS/TC0 - A1 (io), 33 PX13/GPIO 64/EBI - NRD/USART2 - RTS/MCI - CLK (io), 34 PX12/GPIO 63/EBI - NWE0/USART2 - CTS/MCI - CLK (io), 35 PX19/GPIO 70/EBI - ADDR[15]/EIC - SCAN[0]/TC0 - B2 (io), 36 PX40/GPIO 91/MCI - CLK (io), 37 PX10/GPIO 61/EBI - DATA[0]/USART2 - RXD (io), 38 PX35/GPIO 86/EBI - DATA[15]/SPI1 - MOSI/PM - GCLK[1] (io), 39 PX47/GPIO 98/EBI - NANDOE/ADC - TRIGGER/MCI - DATA[11] (io), 40 PX15/GPIO 66/EBI - ADDR[19]/USART3 - RTS/TC0 - B0 (io), 41 PX48/GPIO 99/EBI - ADDR[23]/USB - VBOF/MCI - DATA[10] (io), 42 PX53/GPIO 104/EBI - NCS[2]/MCI - DATA[13] (io), 43 PX49/GPIO 100/EBI - CFRNW/USB - ID/MCI - DATA[9] (io), 44 PX36/GPIO 87/EBI - DATA[14]/SPI1 - SPCK/PM - GCLK[2] (io), 45 PX37/GPIO 88/EBI - DATA[13]/SPI1 - NPCS[0]/PM - GCLK[3] (io), 46 PX54/GPIO 105/EBI - NWAIT/USART3 - TXD/MCI - DATA[12] (io), 49 PX09/GPIO 60/EBI - DATA[1]/USART3 - TXD (io), 50 PX08/GPIO 59/EBI - DATA[2]/USART3 - RXD (io), 51 PX38/GPIO 89/EBI - DATA[12]/SPI1 - NPCS[1]/USART1 - DCD (io), 52 PX39/GPIO 90/EBI - DATA[11]/SPI1 - NPCS[2]/USART1 - DSR (io), 53 PX06/GPIO 57/EBI - DATA[4]/USART1 - CTS (io), 54 PX07/GPIO 58/EBI - DATA[3]/USART1 - RTS (io), 55 PX00/GPIO 51/EBI - DATA[10]/USART0 - RXD/USART1 - RI (io), 56 PX59/GPIO 110/EBI - NANDWE/MCI - CMD[1] (io), 57 PX58/GPIO 109/EBI - NCS[0]/EIC - SCAN[0]/USART3 - TXD (io), 58 PX05/GPIO 56/EBI - DATA[5]/USART1 - TXD (io), 59 PX01/GPIO 52/EBI - DATA[9]/USART0 - TXD/USART1 - DTR (io), 60 PX04/GPIO 55/EBI - DATA[6]/USART1 - RXD (io), 61 PX34/GPIO 85/EBI - ADDR[0]/SPI1 - MISO/PM - GCLK[0] (io), 62 PX02/GPIO 53/EBI - DATA[8]/USART0 - CTS/PM - GCLK[0] (io), 63 PX03/GPIO 54/EBI - DATA[7]/USART0 - RTS (io), 66 PX44/GPIO 95/EBI - SDWE/USART1 - DTR (io), 67 PX11/GPIO 62/EBI - NWE1/USART2 - TXD (io), 68 PX14/GPIO 65/EBI - NCS[1]/TC0 - A0 (io), 69 PX42/GPIO 93/EBI - RAS (io), 70 PX45/GPIO 96/EBI - SDCK (io), 71 PX41/GPIO 92/EBI - CAS (io), 72 PX22/GPIO 73/EBI - ADDR[12]/EIC - SCAN[3]/TC0 - CLK2 (io), 73 PX20/GPIO 71/EBI - ADDR[14]/EIC - SCAN[1]/TC0 - CLK0 (io), 74 PX46/GPIO 97/EBI - SDCKE (io), 75 PX50/GPIO 101/EBI - CFCE2/TC1 - B2/MCI - DATA[8] (io), 76 PX57/GPIO 108/EBI - ADDR[20]/EIC - SCAN[1]/USART3 - RXD (io), 77 PX51/GPIO 102/EBI - CFCE1/DMACA - DMAACK[0]/MCI - DATA[15] (io), 78 PX56/GPIO 107/EBI - ADDR[21]/EIC - SCAN[2]/USART2 - TXD (io), 79 PX55/GPIO 106/EBI - ADDR[22]/EIC - SCAN[3]/USART2 - RXD (io), 80 PX21/GPIO 72/EBI - ADDR[13]/EIC - SCAN[2]/TC0 - CLK1 (io), 83 PX17/GPIO 68/EBI - ADDR[17]/DMACA - DMARQ[1]/TC0 - B1 (io), 84 PX18/GPIO 69/EBI - ADDR[16]/DMACA - DMAACK[1]/TC0 - A2 (io), 85 PX23/GPIO 74/EBI - ADDR[11]/EIC - SCAN[4]/SSC - TX_CLOCK (io), 86 PX24/GPIO 75/EBI - ADDR[10]/EIC - SCAN[5]/SSC - TX_DATA (io), 87 PX52/GPIO 103/EBI - NCS[3]/DMACA - DMARQ[0]/MCI - DATA[14] (io), 88 PX43/GPIO 94/EBI - SDA10/USART1 - RI (io), 89 PX27/GPIO 78/EBI - ADDR[7]/SPI0 - MISO/SSC - TX_FRAME_SYNC (io), 90 PX26/GPIO 77/EBI - ADDR[8]/EIC - SCAN[7]/SSC - RX_FRAME_SYNC (io), 91 PX28/GPIO 79/EBI - ADDR[6]/SPI0 - MOSI/SSC - RX_CLOCK (io), 92 PX25/GPIO 76/EBI - ADDR[9]/EIC - SCAN[6]/SSC - RX_DATA (io), 93 PX32/GPIO 83/EBI - ADDR[2]/SPI0 - NPCS[2] (io), 94 PX29/GPIO 80/EBI - ADDR[5]/SPI0 - SPCK (io), 95 PX33/GPIO 84/EBI - ADDR[1]/SPI0 - NPCS[3] (io), 96 PX30/GPIO 81/EBI - ADDR[4]/SPI0 - NPCS[0] (io), 97 PX31/GPIO 82/EBI - ADDR[3]/SPI0 - NPCS[1] (io)
part E pins: 1 USB_VBUS (out), 3 USB_VBIAS, 5 DMHS (in), 6 DPHS (in), 8 DMFS (in), 9 DPFS (in), 104 TMS (in), 105 TDO (out), 106 ~{RESET} (in), 107 TCK (in), 108 TDI (in)
part F pins: 2 VDDIO (power), 4 GNDIO (power), 7 GNDIO (power), 10 VDDIO (power), 20 GNDIO (power), 21 VDDIO (power), 47 GNDIO (power), 48 VDDIO (power), 64 VDDIO (power), 65 GNDIO (power), 81 VDDIO (power), 82 GNDIO (power), 102 GNDIO (power), 103 VDDIO (power), 117 GNDANA (power), 118 VDDANA (power), 130 VDDIO (power), 131 GNDIO (power), 140 GNDCORE (power), 141 VDDCORE (power), 142 VDDIN (power), 143 VDDIN (power), 144 GNDPLL (power)

## ic_lin_batreg_SPV1040
designator U?  Supplier Part Number 1: 497-11288-1-ND
Battery Charger with MPPT; Supplier 1: Digi-Key
footprint SPV1040xSOP65P640X265-8N (SOP, 8-Leads, Body 3,1x4,5mm (max), Pitch 0,65mm, IPC Medium Density)
pins: 1 MPP-SET, 2 GND, 3 LX, 4 VOUT, 5 VCTRL, 6 ICTRL_MINUS, 7 ICTRL_PLUS, 8 XSHUT

## ic_lin_dcdc_TDK-Lambda
designator U?, comment DC/DC  Supplier Part Number 1: 445-2462-ND
DC-to-DC isolated transformer; Manufacturer: TDK-Lambda Americas Inc; Manufacturer Part Number: CC3-0503SF-E; Power (Watts) - Manufacture Series: 3W; Number of Outputs: 1; Voltage - Input (Min): 4.5V; Voltage - Input (Max): 9V; Voltage - Output 1: 3.3V; Current - Output (Max): 800mA; Voltage - Isolation: 500V; Supplier 1: Digi-Key; RoHS: RoHS Compliant; Category: Power Supplies - Board Mount; Stock 1: 96; Pricing 1: 1=13.88, 10=13.378 (EUR); Packaging: Tray; Type: Isolated Module; Voltage - Output 2: -; Voltage - Output 3: -; Features: -; Mounting Type: Through Hole; Package / Case: 7-DIP Module; Size / Dimension: 0.90" L x 0.65" W x 0.34" H (22.8mm x 16.6mm x 8.5mm); Operating Temperature: -40°C ~ 85°C; Efficiency: -; Power (Watts) - Max: 3W; ComponentLink1URL: http://us.tdk-lambda.com/lp/ftp/specs/CC3-xF-E_spc_en.pdf; ComponentLink1Description: http://us.tdk-lambda.com/lp/ftp/specs/CC3-xF-E_spc_en.pdf
footprint CC3-xxxxxF-E
pins: 1 +Vin (power), 2 RC, 3 -Vin (power), 4 NC, 5 -Vout (power), 6 TRM, 7 +Vout (power), 8 Shield

## ic_lin_driver_PCA9510
designator U?, comment PCA9510
Hot swappable I2C-bus and SMBus bus buffer
pins: 1 EN (in), 2 SCLA (oc), 3 SCLB (oc), 4 GND (power), 5 READY (oc), 6 SDAB (oc), 7 SDAA (oc), 8 Vcc (power)
text: EN1; RDY; SCLIN; SCLOUT; SDAIN; SDAOUT

## ic_lin_driver_PCA9517
designator U?, comment PCA9517
Level translating I2C-bus repeater with rise accellerator
pins: 1 VccA (power), 2 SCLA (oc), 3 SDAA (oc), 4 GND (power), 5 EN (in), 6 SDAB (oc), 7 SCLB (oc), 8 VccB (power)
text: EN1

## ic_lin_mplexsw_LTC4413
designator U?, comment LTC4413
2-Channel Ideal Diode ORing or Load Sharing
footprint DFN-MF10 (SON, 10-Leads, Body 3x3mm, Pitch 0.5mm, Microchip Recommended)
pins: 1 INA (in), 2 ~{ENBA} (in), 3 GND (power), 4 ~{ENBB} (in), 5 INB (in), 6 OUTB (out), 7 NC hidden, 8 NC hidden, 9 STAT (out), 10 OUTA (out), 11 GND (power)

## ic_lin_mplexsw_MAX14523A/B/C
designator U?, comment MAX14523A/B/C
250mA to 1.5A, Adjustable  Current-Limit Switch
pins: 1 nc hidden, 2 ~{FLAG} (out), 3 SETI (in), 4 OUT (out), 5 IN (in), 6 nc hidden, 7 ON (in), 8 GND (power), 9 GND (power)
text: Adjustable current limiting switch; i; 1,ON; X1; C; 170,15; -2uA; Retry / Ctrl

## ic_lin_mplexsw_MAX14523AL
designator U?, comment MAX14523AL
250mA to 1.5A, Active Low On, Adjustable  Current-Limit Switch
pins: 1 nc hidden, 2 ~{FLAG} (out), 3 SETI (in), 4 OUT (out), 5 IN (in), 6 nc hidden, 7 ~{ON} (in), 8 GND (power), 9 GND (power)
text: Adjustable current limiting switch; i; 1,ON; X1; C; 170,15; -2uA; Retry / Ctrl

## ic_lin_mplexsw_SM74611
designator D?
Ultra Low Drop Diode; Supplier 1: Mouser; Supplier Part Number 1: 595-SM74611KTTR
footprint TS3B - Pin 2 removed (D2-PAK, 4-Leads, Body 8.6x10.2mm, Pitch 2.54mm, Lead Span 14.2mm, IPC High Density)
pins: 1 A (power), 3 A (power), 4 DAP (power)

## ic_lin_muxsw_TPS25942
designator U*, comment TPS25942
eFuse Power MUX with Multiple Protection Modes
pins: 1 ~{ENBLK} (in), 2 PGOOD (oc), 3 PGTH (in), 4 OUT (out), 5 OUT (out), 6 OUT (out), 7 OUT (out), 8 OUT (out), 9 IN (power), 10 IN (power), 11 IN (power), 12 IN (power), 13 IN (power), 14 EN/UVLO (in), 15 OVP (in), 16 GND (power), 17 ILIM (in), 18 dV/dT (out), 19 IMON (out), 20 ~{FLT} (oc)
text: Adjustable current limiting switch; i; 1, limit dV/dT; &; 0.92     0.99; X1; >; _; 0.96     1.85; -238mA; C; 148      160; i * 56u; NOTE: Symbol incomplete. Read datasheet

## ic_lin_opamp_INA105
designator *
Precision unity gain differential amplifier
pins: 1 Ref (in), 2 -In (in), 3 +In (in), 4 V- (power), 5 Sense (in), 6 Output (out), 7 V+ (power)
text: 25k; -; G=1; +

## ic_lin_opamp_INA110
designator U*, comment INA110
FET-input  instrumentation amplifier
pins: 1 -In (in), 2 +In (in), 3 RG (in), 4 IO+ (power), 5 IO- (power), 6 Ref (in), 7 V- (power), 8 V+ (power), 9 Output (out), 10 Sense (in), 11 x500 (in), 12 x100 (in), 13 x10 (in), 14 OO+ (power), 15 OO- (power), 16 x200 (in)
text: +; 4.44k; -; 10k; 404R; 201R; Out; 80.2R; 20k; R; G

## ic_lin_rf_txrx_ADF7021
designator U?  Supplier Part Number 1: ADF7021BCPZ-RLTR-ND
Analog Devices ADF7021; Supplier 1: Digi-Key
footprint CP-48-3_N (QFN, 48-Leads, Body 7x7mm, Pitch 0.5mm, Thermal Pad 4.1x4.1mm, IPC Medium Density)
pins: 1 VCOIN, 2 CREG1, 3 VDD1, 4 RFOUT, 5 RFGND, 6 RFIN, 7 RFINB, 8 RLNA, 9 VDD4, 10 RSET, 11 CREG4, 12 GND4, 13 MIX_I, 14 ~{MIX_}I, 15 MIX_Q, 16 ~{MIX_}Q, 17 FILT_I, 18 ~{FILT_}I, 19 GND4, 20 FILT_Q, 21 ~{FILT_}Q, 22 GND4, 23 TEST_A, 24 CE, 25 SLE, 26 SDATA, 27 SREAD, 28 SCLK, 29 GND2, 30 ADCIN, 31 CREG2, 32 VDD2, 33 SWD, 34 TxRxDATA, 35 TxRxCLK, 36 CLKOUT, 37 MUXOUT, 38 OSC2, 39 OSC1, 40 VDD3, 41 CREG3, 42 CPOUT, 43 VDD, 44 L2, 45 GND, 46 L1, 47 GND1, 48 CVCO

## ic_lin_rf_txrx_ADF7023
designator U?  Supplier Part Number 1: ADF7023BCPZ-ND
Analog Devices ADF7023 UHF tranceiver; Supplier 1: Digi-Key
footprint QFN32 (LFCSP-WQ) (QFN, 32-Leads, Body 5,1x5,1mm (max), Pitch 0,50mm, IPC Medium Density)
footprint ADI-CP-32-13_N (QFN, 32-Leads, Body 5x5mm, Pitch 0.5mm, Thermal Pad 3.3x3.3mm, IPC Medium Density)
pins: 1 CREGF1 (power), 2 RFBIAS (power), 3 CREGRF2, 4 RFIO_1P (io) "LNA/PA positive", 5 RFIO_1N (io) "LNA/PA negative", 6 RFO2 (out) "Single ended PA output", 7 VDDBAT2 (power), 8 NC, 9 CREGVCO (power) "Reg. for VCO", 10 VCOGUARD, 11 CREGSYNTH, 12 CWAKEUP, 13 XOSC26P "Positive 26 MHz xtal", 14 XOSCN "Negative 26 MHz xtal", 15 DGUARD, 16 CREGDIG1, 17 GP1 (io), 18 GP1 (io), 19 GP2 (io), 20 IRQ_GP3 (io), 21 MISO (out), 22 SCLK (io), 23 MOSI (in), 24 ~{CS}, 25 GP4 (io), 26 CREGDIG2, 27 XOSC32_GP5_AT1 (io), 28 XOSC32KN_AT2, 29 VDDBAT1 (power), 30 ADCIN_AT3, 31 AT4, 32 ADCVREF, 33 EPAD (power) hidden to GND

## ic_lin_sense_INA219
designator U?, comment INA219
I2C Voltage sensor
footprint SOT23-8
pins: 1 VIN+ (in), 2 VIN- (in), 3 GND (power), 4 Vcc (power), 5 SCL (oc), 6 SDA (oc), 7 A0 (in), 8 A1 (in)

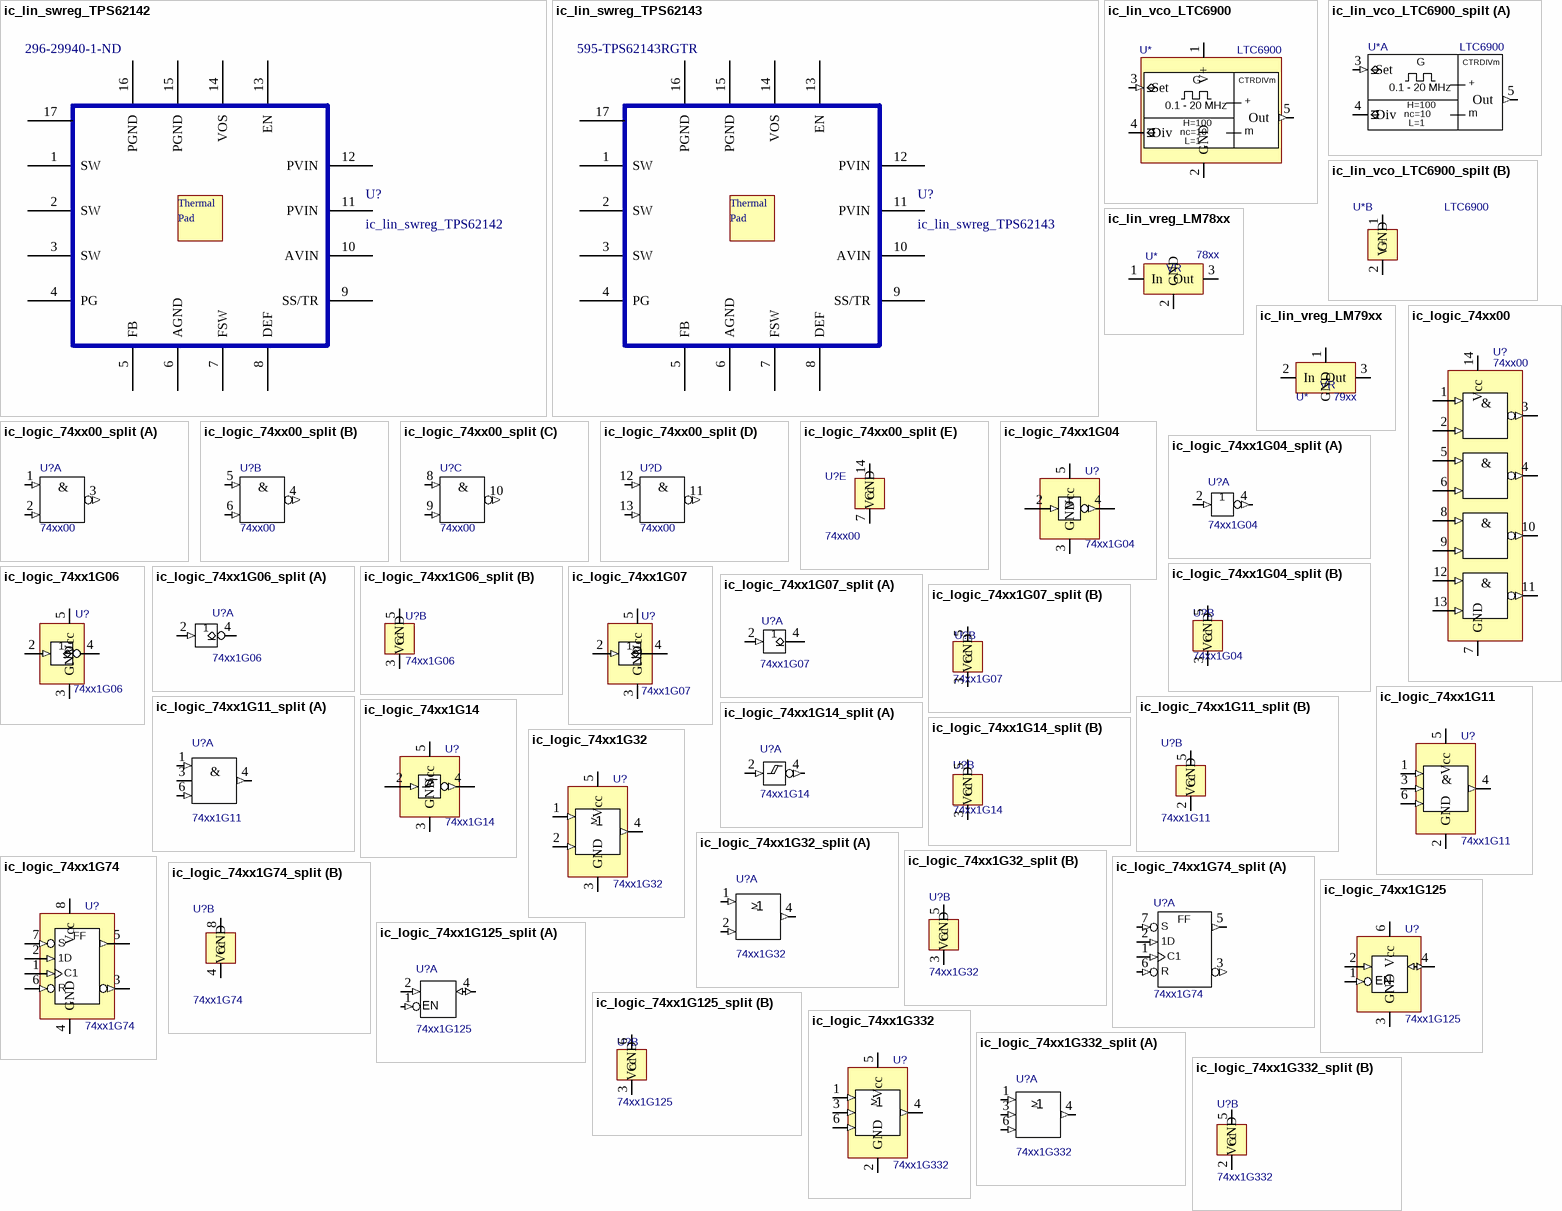
[diagram p5: symbols ic_lin_swreg_TPS62142 to ic_logic_74xx1G332_split]

## ic_lin_swreg_TPS62142
designator U?  Supplier Part Number 1: 296-29940-1-ND
Voltage regulator 3.3V; Supplier 1: Digi-Key
footprint TPS6214xQFN16
pins: 1 SW, 2 SW, 3 SW, 4 PG, 5 FB, 6 AGND, 7 FSW, 8 DEF, 9 SS/TR, 10 AVIN, 11 PVIN, 12 PVIN, 13 EN, 14 VOS, 15 PGND, 16 PGND, 17
text: Thermal; Pad

## ic_lin_swreg_TPS62143
designator U?  Supplier Part Number 1: 595-TPS62143RGTR
Voltage regulator 5.0V; Supplier 1: Mouser
footprint TPS6214xQFN16 (QFN, 16-Leads, Body 3,2x3,2mm (max), Pitch 0,50mm, IPC Medium Density)
pins: 1 SW, 2 SW, 3 SW, 4 PG, 5 FB, 6 AGND, 7 FSW, 8 DEF, 9 SS/TR, 10 AVIN, 11 PVIN, 12 PVIN, 13 EN, 14 VOS, 15 PGND, 16 PGND, 17
text: Thermal; Pad

## ic_lin_vco_LTC6900
designator U*, comment LTC6900
Low power 1kHz - 20MHz resistor set oscillator
pins: 1 V+ (power), 2 GND (power), 3 Set (in), 4 Div, 5 Out (out)
text: G; CTRDIVm; 0.1 - 20 MHz; +; H=100; nc=10; m; L=1

## ic_lin_vco_LTC6900_spilt
designator U*, comment LTC6900
Low power 1kHz - 20MHz resistor set oscillator - Split schematic symbol
part A pins: 3 Set (in), 4 Div, 5 Out (out)
part B pins: 1 V+ (power), 2 GND (power)
part A text: G; CTRDIVm; 0.1 - 20 MHz; +; H=100; nc=10; m; L=1

## ic_lin_vreg_LM78xx
designator U*, comment 78xx
Positive voltage regulator 78xx
pins: 1 In, 2 GND, 3 Out
text: VR

## ic_lin_vreg_LM79xx
designator U*, comment 79xx
Negative voltage regulator 79xx
pins: 1 GND, 2 In, 3 Out
text: VR

## ic_logic_74xx00
designator U?, comment 74xx00
Quad 2-input NAND gate
pins: 1 1A (in), 2 1B (in), 3 1X (out), 4 2X (out), 5 2A (in), 6 2B (in), 7 GND (power), 8 3A (in), 9 3B (in), 10 3X (out), 11 4X (out), 12 4A (in), 13 4B (in), 14 Vcc (power)
1 alternate drawing of the same symbol
text: &

## ic_logic_74xx00_split
designator U?, comment 74xx00
Quad 2-input NAND gate - Split schematic symbol
part A pins: 1 1A (in), 2 1B (in), 3 1X (out)
part B pins: 4 2X (out), 5 2A (in), 6 2B (in)
part C pins: 8 3A (in), 9 3B (in), 10 3X (out)
part D pins: 11 4X (out), 12 4A (in), 13 4B (in)
part E pins: 7 GND (power), 14 Vcc (power)
1 alternate drawing of the same symbol
part A text: &
part B text: &
part C text: &
part D text: &

## ic_logic_74xx1G04
designator U?, comment 74xx1G04
Single inverter
pins: 2 A (in), 3 GND (power), 4 Y (out), 5 Vcc (power)
1 alternate drawing of the same symbol
text: 1

## ic_logic_74xx1G04_split
designator U?, comment 74xx1G04
Single inverter - Split schematic symbol
part A pins: 2 A (in), 4 Y (out)
part B pins: 3 GND (power), 5 Vcc (power)
1 alternate drawing of the same symbol
part A text: 1

## ic_logic_74xx1G06
designator U?, comment 74xx1G06
Single Open Drain Inverter - Little Logic
pins: 1 nc hidden, 2 A (in), 3 GND (power), 4 Y (oc), 5 Vcc (power)
1 alternate drawing of the same symbol

## ic_logic_74xx1G06_split
designator U?, comment 74xx1G06
Single Open Drain Inverter - Little Logic  - Split schematic symbol
part A pins: 2 A (in), 4 Y (oc)
part B pins: 1 nc hidden, 3 GND (power), 5 Vcc (power)
1 alternate drawing of the same symbol

## ic_logic_74xx1G07
designator U?, comment 74xx1G07
Single Open Drain Buffer - Little Logic
pins: 1 nc hidden, 2 A (in), 3 GND (power), 4 Y (oc), 5 Vcc (power)
1 alternate drawing of the same symbol

## ic_logic_74xx1G07_split
designator U?, comment 74xx1G07
Single Open Drain Buffer - Little Logic  - Split schematic symbol
part A pins: 2 A (in), 4 Y (oc)
part B pins: 1 nc hidden, 3 GND (power), 5 Vcc (power)
1 alternate drawing of the same symbol

## ic_logic_74xx1G11
designator U?, comment 74xx1G11
Single 3-port AND gate - Little Logic
pins: 1 A (in), 2 GND (power), 3 B (in), 4 X (out), 5 Vcc (power), 6 C (in)
1 alternate drawing of the same symbol
text: &

## ic_logic_74xx1G11_split
designator U?, comment 74xx1G11
Single 3-port AND gate - Little Logic - Split schematic symbol
part A pins: 1 A (in), 3 B, 4 X (out), 6 C (in)
part B pins: 2 GND (power), 5 Vcc (power)
1 alternate drawing of the same symbol
part A text: &

## ic_logic_74xx1G14
designator U?, comment 74xx1G14
Single Schmitt-trigger inverter
pins: 2 A (in), 3 GND (power), 4 Y (out), 5 Vcc (power)
1 alternate drawing of the same symbol

## ic_logic_74xx1G14_split
designator U?, comment 74xx1G14
Single Schmitt-trigger inverter - Split schematic symbol
part A pins: 2 A (in), 4 Y (out)
part B pins: 3 GND (power), 5 Vcc (power)
1 alternate drawing of the same symbol

## ic_logic_74xx1G32
designator U?, comment 74xx1G32
Single 2-port OR gate - Little Logic
pins: 1 A (in), 2 B (in), 3 GND (power), 4 Y (out), 5 Vcc (power)
1 alternate drawing of the same symbol
text: >; _

## ic_logic_74xx1G32_split
designator U?, comment 74xx1G32
Single 2-port OR gate - Little Logic - Split schematic symbol
part A pins: 1 A (in), 2 B (in), 4 Y (out)
part B pins: 3 GND (power), 5 Vcc (power)
1 alternate drawing of the same symbol
part A text: >; _

## ic_logic_74xx1G74
designator U?, comment 74xx1G74
Single D-type Flip Flop
pins: 1 CLK (in), 2 D (in), 3 ~{Q} (out), 4 GND (power), 5 Q (out), 6 ~{CLR} (in), 7 ~{SET} (in), 8 Vcc (power)
1 alternate drawing of the same symbol
text: FF; S; 1D; C1; R

## ic_logic_74xx1G74_split
designator U?, comment 74xx1G74
Single D-type Flip Flop - Split schematic symbol
part A pins: 1 CLK (in), 2 D (in), 3 ~{Q} (out), 5 Q (out), 6 ~{CLR} (in), 7 ~{SET} (in)
part B pins: 4 GND (power), 8 Vcc (power)
1 alternate drawing of the same symbol
part A text: FF; S; 1D; C1; R

## ic_logic_74xx1G125
designator U?, comment 74xx1G125
Signle Tri-State Buffer - Little Logic
pins: 1 /EN (in), 2 A (in), 3 GND (power), 4 Y (io), 5 n/c hidden "not connected", 6 Vcc (power)
1 alternate drawing of the same symbol
text: EN

## ic_logic_74xx1G125_split
designator U?, comment 74xx1G125
Single Tri-State Buffer - Little Logic - Split schematic symbol
part A pins: 1 /OE (in), 2 A (in), 4 Y (io), 5 n/c hidden "not connected"
part B pins: 3 GND (power), 6 Vcc (power)
1 alternate drawing of the same symbol
part A text: EN

## ic_logic_74xx1G332
designator U?, comment 74xx1G332
Single 3-port OR gate - Little Logic
pins: 1 A (in), 2 GND (power), 3 B (in), 4 Y (out), 5 Vcc (power), 6 C (in)
1 alternate drawing of the same symbol
text: >; _

## ic_logic_74xx1G332_split
designator U?, comment 74xx1G332
Single 3-port OR gate - Little Logic - Split schematic symbol
part A pins: 1 A (in), 3 B (in), 4 Y (out), 6 C (in)
part B pins: 2 GND (power), 5 Vcc (power)
1 alternate drawing of the same symbol
part A text: >; _

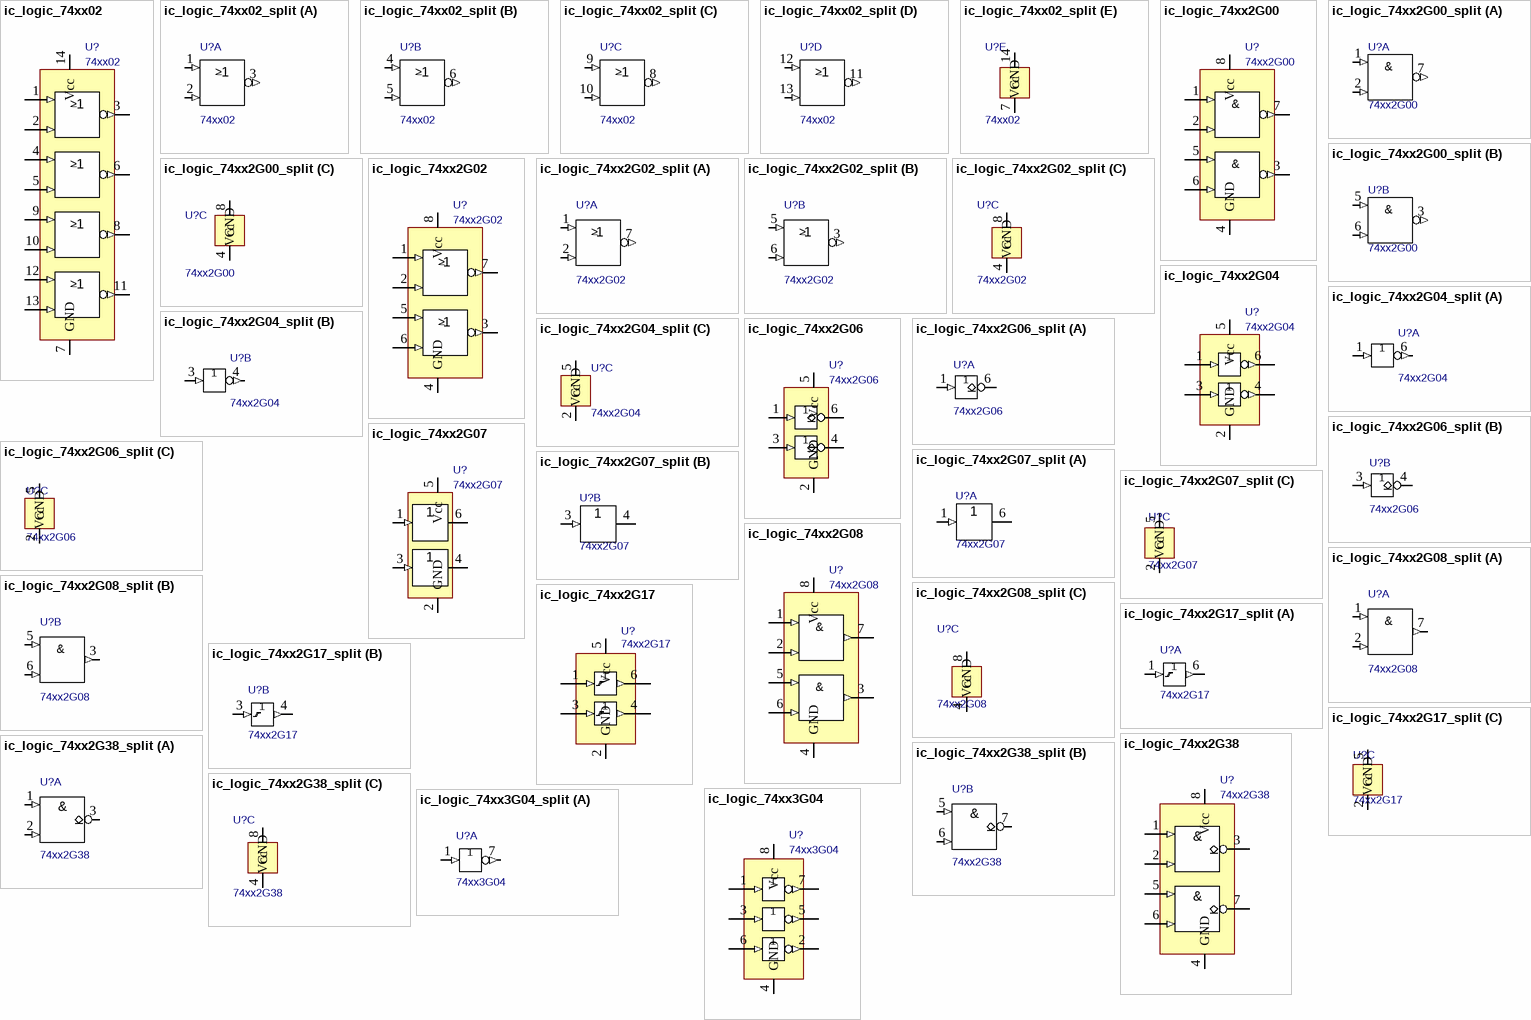
[diagram p6: symbols ic_logic_74xx02 to ic_logic_74xx3G04_split]

## ic_logic_74xx02
designator U?, comment 74xx02
Quad 2-input NOR gate
pins: 1 1A (in), 2 1B (in), 3 1X (out), 4 2A (in), 5 2B (in), 6 2X (out), 7 GND (power), 8 3X (out), 9 3A (in), 10 3B (in), 11 4X (out), 12 4A (in), 13 4B (in), 14 Vcc (power)
1 alternate drawing of the same symbol
text: >; _

## ic_logic_74xx02_split
designator U?, comment 74xx02
Quad 2-input NOR gate - Split schematic symbol
part A pins: 1 1A (in), 2 1B (in), 3 1X (out)
part B pins: 4 2A (in), 5 2B (in), 6 2X (out)
part C pins: 8 3X (out), 9 3A (in), 10 3B (in)
part D pins: 11 4X (out), 12 4A (in), 13 4B (in)
part E pins: 7 GND (power), 14 Vcc (power)
1 alternate drawing of the same symbol
part A text: >; _
part B text: >; _
part C text: >; _
part D text: >; _

## ic_logic_74xx2G00
designator U?, comment 74xx2G00
Dual 2-port NANDgate - Little Logic
pins: 1 1A (in), 2 1B (in), 3 2X (out), 4 GND (power), 5 2A (in), 6 2B (in), 7 1X (out), 8 Vcc (power)
1 alternate drawing of the same symbol
text: &

## ic_logic_74xx2G00_split
designator U?, comment 74xx2G00
Dual 2-port NANDgate - Little Logic  - Split schematic symbol
part A pins: 1 1A (in), 2 1B (in), 7 1X (out)
part B pins: 3 2X (out), 5 2A (in), 6 2B (in)
part C pins: 4 GND (power), 8 Vcc (power)
1 alternate drawing of the same symbol
part A text: &
part B text: &

## ic_logic_74xx2G02
designator U?, comment 74xx2G02
Dual 2-port NOR gate - Little Logic
pins: 1 1A (in), 2 1B (in), 3 2X (out), 4 GND (power), 5 2A (in), 6 2B (in), 7 1X (out), 8 Vcc (power)
1 alternate drawing of the same symbol
text: >; _

## ic_logic_74xx2G02_split
designator U?, comment 74xx2G02
Dual 2-port NOR gate - Little Logic - Split schematic symbol
part A pins: 1 1A (in), 2 1B (in), 7 1X (out)
part B pins: 3 2X (out), 5 2A (in), 6 2B (in)
part C pins: 4 GND (power), 8 Vcc (power)
1 alternate drawing of the same symbol
part A text: >; _
part B text: >; _

## ic_logic_74xx2G04
designator U?, comment 74xx2G04
Dual inverter
pins: 1 1A (in), 2 GND (power), 3 2A (in), 4 2Y (out), 5 Vcc (power), 6 1Y (out)
1 alternate drawing of the same symbol

## ic_logic_74xx2G04_split
designator U?, comment 74xx2G04
Dual inverter - Split schematic symbol
part A pins: 1 1A (in), 6 1Y (out)
part B pins: 3 2A (in), 4 2Y (out)
part C pins: 2 GND (power), 5 Vcc (power)
1 alternate drawing of the same symbol

## ic_logic_74xx2G06
designator U?, comment 74xx2G06
Dual Open Drain Inverter - Little Logic
pins: 1 1A (in), 2 GND (power), 3 2A (in), 4 2Y (oc), 5 Vcc (power), 6 1Y (oc)
1 alternate drawing of the same symbol

## ic_logic_74xx2G06_split
designator U?, comment 74xx2G06
Dual Open Drain Inverter - Little Logic  - Split schematic symbol
part A pins: 1 1A (in), 6 1Y (oc)
part B pins: 3 2A (in), 4 2Y (oc)
part C pins: 2 GND (power), 5 Vcc (power)
1 alternate drawing of the same symbol

## ic_logic_74xx2G07
designator U?, comment 74xx2G07
Dual Open Drain Buffer - Little Logic
pins: 1 1A (in), 2 GND (power), 3 2A (in), 4 2Y (oc), 5 Vcc (power), 6 1Y (oc)
1 alternate drawing of the same symbol

## ic_logic_74xx2G07_split
designator U?, comment 74xx2G07
Dual Open Drain Buffer - Little Logic  - Split schematic symbol
part A pins: 1 1A (in), 6 1Y (oc)
part B pins: 3 2A (in), 4 2Y (oc)
part C pins: 2 GND (power), 5 Vcc (power)
1 alternate drawing of the same symbol

## ic_logic_74xx2G08
designator U?, comment 74xx2G08
Dual 2-port AND-gate - Little Logic
pins: 1 1A (in), 2 1B (in), 3 2X (out), 4 GND (power), 5 2A (in), 6 2B (in), 7 1X (out), 8 Vcc (power)
1 alternate drawing of the same symbol
text: &

## ic_logic_74xx2G08_split
designator U?, comment 74xx2G08
Dual 2-port AND-gate - Little Logic  - Split schematic symbol
part A pins: 1 1A (in), 2 1B (in), 7 1X (out)
part B pins: 3 2X (out), 5 2A (in), 6 2B (in)
part C pins: 4 GND (power), 8 Vcc (power)
1 alternate drawing of the same symbol
part A text: &
part B text: &

## ic_logic_74xx2G17
designator U?, comment 74xx2G17
Dual non-inverting schmitt trigger
pins: 1 1A (in), 2 GND (power), 3 2A (in), 4 2Y (out), 5 Vcc (power), 6 1Y (out)
1 alternate drawing of the same symbol

## ic_logic_74xx2G17_split
designator U?, comment 74xx2G17
Dual non-inverting schmitt trigger - Split schematic symbol
part A pins: 1 1A (in), 6 1Y (out)
part B pins: 3 2A (in), 4 2Y (out)
part C pins: 2 GND (power), 5 Vcc (power)
1 alternate drawing of the same symbol

## ic_logic_74xx2G38
designator U?, comment 74xx2G38
Double 2-input NAND gate with open drain
pins: 1 1A (in), 2 1B (in), 3 1X (oc), 4 GND (power), 5 2A (in), 6 2B (in), 7 2X (oc), 8 Vcc (power)
1 alternate drawing of the same symbol
text: &

## ic_logic_74xx2G38_split
designator U?, comment 74xx2G38
Double 2-input NAND gate with open drain - Split schematic symbol
part A pins: 1 1A (in), 2 1B (in), 3 1X (oc)
part B pins: 5 2A (in), 6 2B (in), 7 2X (oc)
part C pins: 4 GND (power), 8 Vcc (power)
1 alternate drawing of the same symbol
part A text: &
part B text: &

## ic_logic_74xx3G04
designator U?, comment 74xx3G04
Tripple inverter
pins: 1 1A (in), 2 3Y (out), 3 2A (in), 4 GND (power), 5 2Y (out), 6 3A (in), 7 1Y (out), 8 Vcc (power)
1 alternate drawing of the same symbol

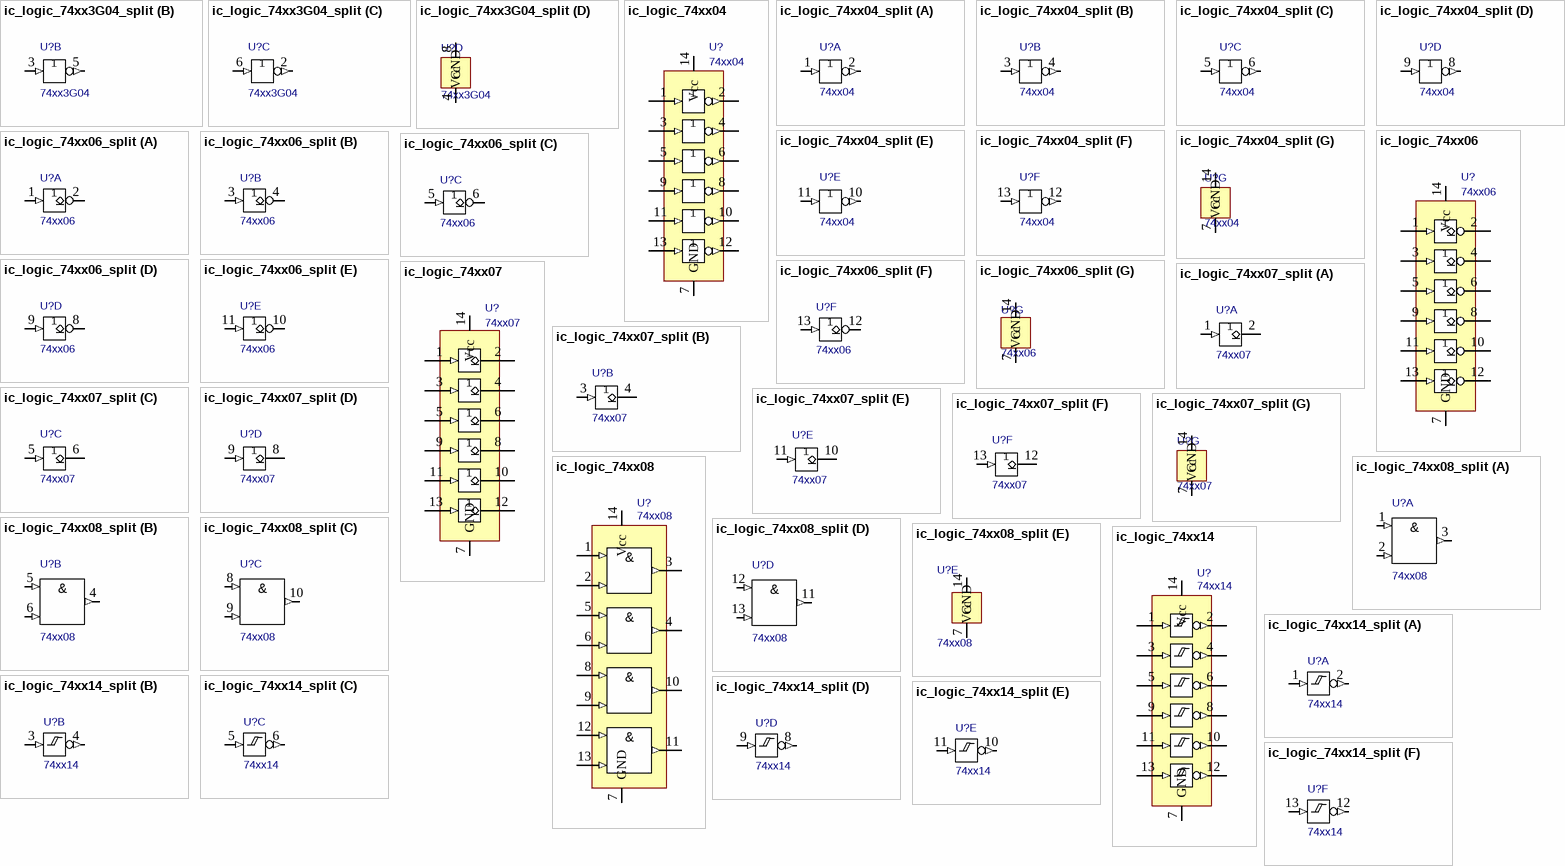
[diagram p7: symbols ic_logic_74xx3G04_split to ic_logic_74xx14_split]

## ic_logic_74xx3G04_split
designator U?, comment 74xx3G04
Tripple inverter - Split schematic symbol
part A pins: 1 1A (in), 7 1Y (out)
part B pins: 3 2A (in), 5 2Y (out)
part C pins: 2 3Y (out), 6 3A (in)
part D pins: 4 GND (power), 8 Vcc (power)
1 alternate drawing of the same symbol

## ic_logic_74xx04
designator U?, comment 74xx04
Hex inverter
pins: 1 1A (in), 2 1Y (out), 3 2A (in), 4 2Y (out), 5 3A (in), 6 3Y (out), 7 GND (power), 8 4Y (out), 9 4A (in), 10 5Y (out), 11 5A (in), 12 6Y (out), 13 6A (in), 14 Vcc (power)
1 alternate drawing of the same symbol

## ic_logic_74xx04_split
designator U?, comment 74xx04
Hex inverter - Split schematic symbol
part A pins: 1 1A (in), 2 1Y (out)
part B pins: 3 2A (in), 4 2Y (out)
part C pins: 5 3A (in), 6 3Y (out)
part D pins: 8 4Y (out), 9 4A (in)
part E pins: 10 5Y (out), 11 5A (in)
part F pins: 12 6Y (out), 13 6A (in)
part G pins: 7 GND (power), 14 Vcc (power)
1 alternate drawing of the same symbol

## ic_logic_74xx06
designator U?, comment 74xx06
Hex inverter with open-drain outputs
pins: 1 1A (in), 2 1Y (oc), 3 2A (in), 4 2Y (oc), 5 3A (in), 6 3Y (oc), 7 GND (power), 8 4Y (oc), 9 4A (in), 10 5Y (oc), 11 5A (in), 12 6Y (oc), 13 6A (in), 14 Vcc (power)
1 alternate drawing of the same symbol

## ic_logic_74xx06_split
designator U?, comment 74xx06
Hex inverter with open-drain outputs - Split schematic symbol
part A pins: 1 1A (in), 2 1Y (oc)
part B pins: 3 2A (in), 4 2Y (oc)
part C pins: 5 3A (in), 6 3Y (oc)
part D pins: 8 4Y (oc), 9 4A (in)
part E pins: 10 5Y (oc), 11 5A (in)
part F pins: 12 6Y (oc), 13 6A (in)
part G pins: 7 GND (power), 14 Vcc (power)
1 alternate drawing of the same symbol

## ic_logic_74xx07
designator U?, comment 74xx07
Hex buffer with open-drain outputs
pins: 1 1A (in), 2 1Y (oc), 3 2A (in), 4 2Y (oc), 5 3A (in), 6 3Y (oc), 7 GND (power), 8 4Y (oc), 9 4A (in), 10 5Y (oc), 11 5A (in), 12 6Y (oc), 13 6A (in), 14 Vcc (power)
1 alternate drawing of the same symbol

## ic_logic_74xx07_split
designator U?, comment 74xx07
Hex buffer with open-drain outputs - Split schematic symbol
part A pins: 1 1A (in), 2 1Y (oc)
part B pins: 3 2A (in), 4 2Y (oc)
part C pins: 5 3A (in), 6 3Y (oc)
part D pins: 8 4Y (oc), 9 4A (in)
part E pins: 10 5Y (oc), 11 5A (in)
part F pins: 12 6Y (oc), 13 6A (in)
part G pins: 7 GND (power), 14 Vcc (power)
1 alternate drawing of the same symbol

## ic_logic_74xx08
designator U?, comment 74xx08
Quad 2-input AND gate
pins: 1 1A (in), 2 1B (in), 3 1X (out), 4 2X (out), 5 2A (in), 6 2B (in), 7 GND (power), 8 3A (in), 9 3B (in), 10 3X (out), 11 4X (out), 12 4A (in), 13 4B (in), 14 Vcc (power)
1 alternate drawing of the same symbol
text: &

## ic_logic_74xx08_split
designator U?, comment 74xx08
Quad 2-input AND gate - Split schematic symbol
part A pins: 1 1A (in), 2 1B (in), 3 1X (out)
part B pins: 4 2X (out), 5 2A (in), 6 2B (in)
part C pins: 8 3A (in), 9 3B (in), 10 3X (out)
part D pins: 11 4X (out), 12 4A (in), 13 4B (in)
part E pins: 7 GND (power), 14 Vcc (power)
1 alternate drawing of the same symbol
part A text: &
part B text: &
part C text: &
part D text: &

## ic_logic_74xx14
designator U?, comment 74xx14
Hex inverting Schmitt trigger
pins: 1 1A (in), 2 1Y (out), 3 2A (in), 4 2Y (out), 5 3A (in), 6 3Y (out), 7 GND (power), 8 4Y (out), 9 4A (in), 10 5Y (out), 11 5A (in), 12 6Y (out), 13 6A (in), 14 Vcc (power)
1 alternate drawing of the same symbol

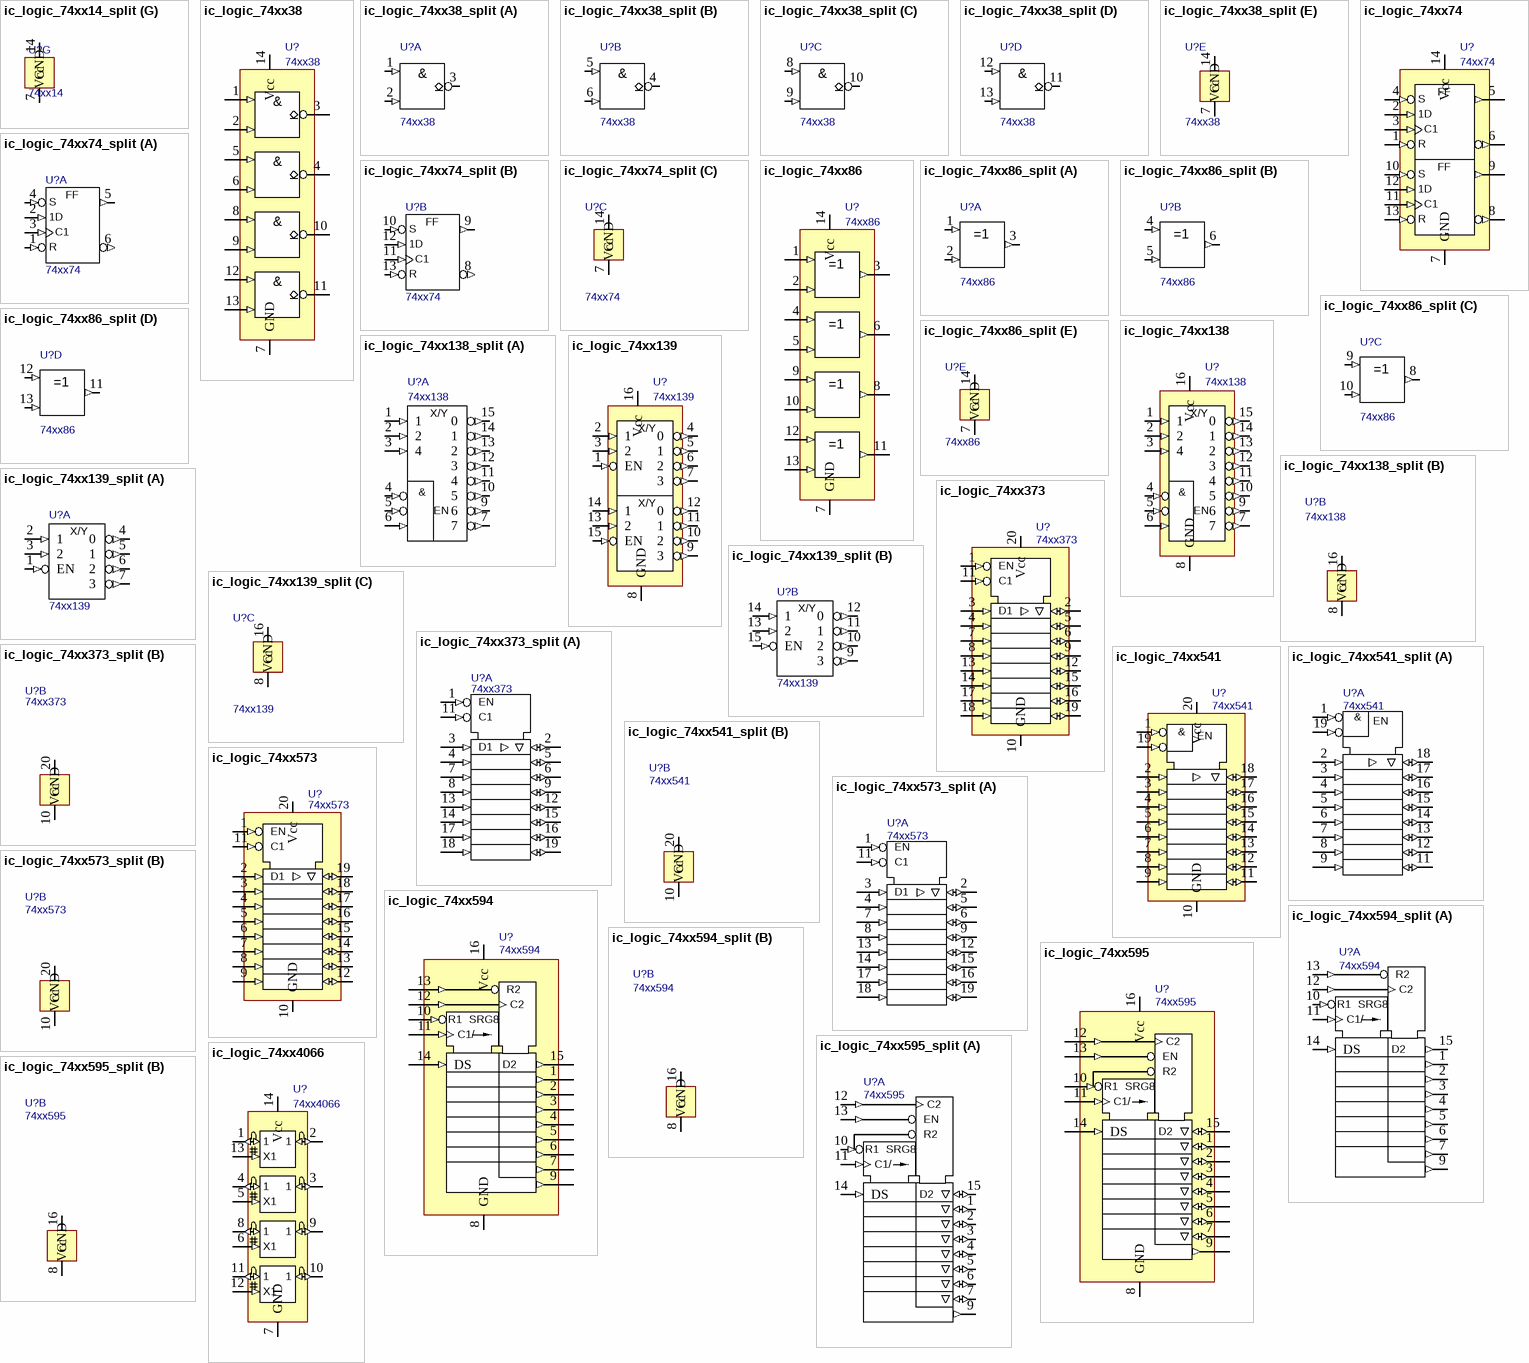
[diagram p8: symbols ic_logic_74xx14_split to ic_logic_74xx4066]

## ic_logic_74xx14_split
designator U?, comment 74xx14
Hex inverting Schmitt trigger - Split schematic symbol
part A pins: 1 1A (in), 2 1Y (out)
part B pins: 3 2A (in), 4 2Y (out)
part C pins: 5 3A (in), 6 3Y (out)
part D pins: 8 4Y (out), 9 4A (in)
part E pins: 10 5Y (out), 11 5A (in)
part F pins: 12 6Y (out), 13 6A (in)
part G pins: 7 GND (power), 14 Vcc (power)
1 alternate drawing of the same symbol

## ic_logic_74xx38
designator U?, comment 74xx38
Quad 2-input NAND gate with open drain
pins: 1 1A (in), 2 1B (in), 3 1X (oc), 4 2X (oc), 5 2A (in), 6 2B (in), 7 GND (power), 8 3A (in), 9 3B (in), 10 3X (oc), 11 4X (oc), 12 4A (in), 13 4B (in), 14 Vcc (power)
1 alternate drawing of the same symbol
text: &

## ic_logic_74xx38_split
designator U?, comment 74xx38
Quad 2-input NAND gate with open drain- Split schematic symbol
part A pins: 1 1A (in), 2 1B (in), 3 1X (oc)
part B pins: 4 2X (oc), 5 2A (in), 6 2B (in)
part C pins: 8 3A (in), 9 3B (in), 10 3X (oc)
part D pins: 11 4X (oc), 12 4A (in), 13 4B (in)
part E pins: 7 GND (power), 14 Vcc (power)
1 alternate drawing of the same symbol
part A text: &
part B text: &
part C text: &
part D text: &

## ic_logic_74xx74
designator U?, comment 74xx74
Dual D-type Flip Flop - Standard 7400 series
pins: 1 ~{1CLR} (in), 2 1D (in), 3 1CLK (in), 4 ~{1SET} (in), 5 1Q (out), 6 ~{1Q} (out), 7 GND (power), 8 ~{2Q} (out), 9 2Q (out), 10 ~{2SET} (in), 11 2CLK (in), 12 2D (in), 13 ~{2CLR} (in), 14 Vcc (power)
1 alternate drawing of the same symbol
text: FF; S; C1; R

## ic_logic_74xx74_split
designator U?, comment 74xx74
Dual D-type Flip Flop - Standard 7400 series - Split schematic symbol
part A pins: 1 ~{1CLR} (in), 2 1D (in), 3 1CLK (in), 4 ~{1SET} (in), 5 1Q (out), 6 ~{1Q} (out)
part B pins: 8 ~{2Q} (out), 9 2Q (out), 10 ~{2SET} (in), 11 2CLK (in), 12 2D (in), 13 ~{2CLR} (in)
part C pins: 7 GND (power), 14 Vcc (power)
1 alternate drawing of the same symbol
part A text: FF; S; C1; R
part B text: FF; S; C1; R

## ic_logic_74xx86
designator U?, comment 74xx86
Quad 2-port XOR gate - Standard 7400 series logic
pins: 1 1A (in), 2 1B (in), 3 1X (out), 4 2A (in), 5 2B (in), 6 2X (out), 7 GND (power), 8 3X (out), 9 3A (in), 10 3B (in), 11 4X (out), 12 4A (in), 13 4B (in), 14 Vcc (power)
1 alternate drawing of the same symbol

## ic_logic_74xx86_split
designator U?, comment 74xx86
Quad 2-port XOR gate - Standard 7400 series logic - Split schematic symbol
part A pins: 1 1A (in), 2 1B (in), 3 1X (out)
part B pins: 4 2A (in), 5 2B (in), 6 2X (out)
part C pins: 8 3X (out), 9 3A (in), 10 3B (in)
part D pins: 11 4X (out), 12 4A (in), 13 4B (in)
part E pins: 7 GND (power), 14 Vcc (power)
1 alternate drawing of the same symbol

## ic_logic_74xx138
designator U?, comment 74xx138
3-to-8 line decoder/demultiplexer inverting output
pins: 1 (in), 2 (in), 3 4 (in), 4 ~{EN1} (in), 5 ~{EN2} (in), 6 EN3 (in), 7 (out), 8 GND (power), 9 6 (out), 10 5 (out), 11 4 (out), 12 3 (out), 13 2 (out), 14 1 (out), 15 0 (out), 16 Vcc (power)
text: X/Y; &; EN

## ic_logic_74xx138_split
designator U?, comment 74xx138
3-to-8 line decoder/demultiplexer inverting output - Split schematic symbol
part A pins: 1 (in), 2 (in), 3 4 (in), 4 ~{EN1} (in), 5 ~{EN2} (in), 6 EN3 (in), 7 (out), 9 6 (out), 10 5 (out), 11 4 (out), 12 3 (out), 13 2 (out), 14 1 (out), 15 0 (out)
part B pins: 8 GND (power), 16 Vcc (power)
part A text: X/Y; &; EN